# Altium schematic symbol library MCU_Microchip_PIC16.SchLib: 259 symbols (part 4 of 5)
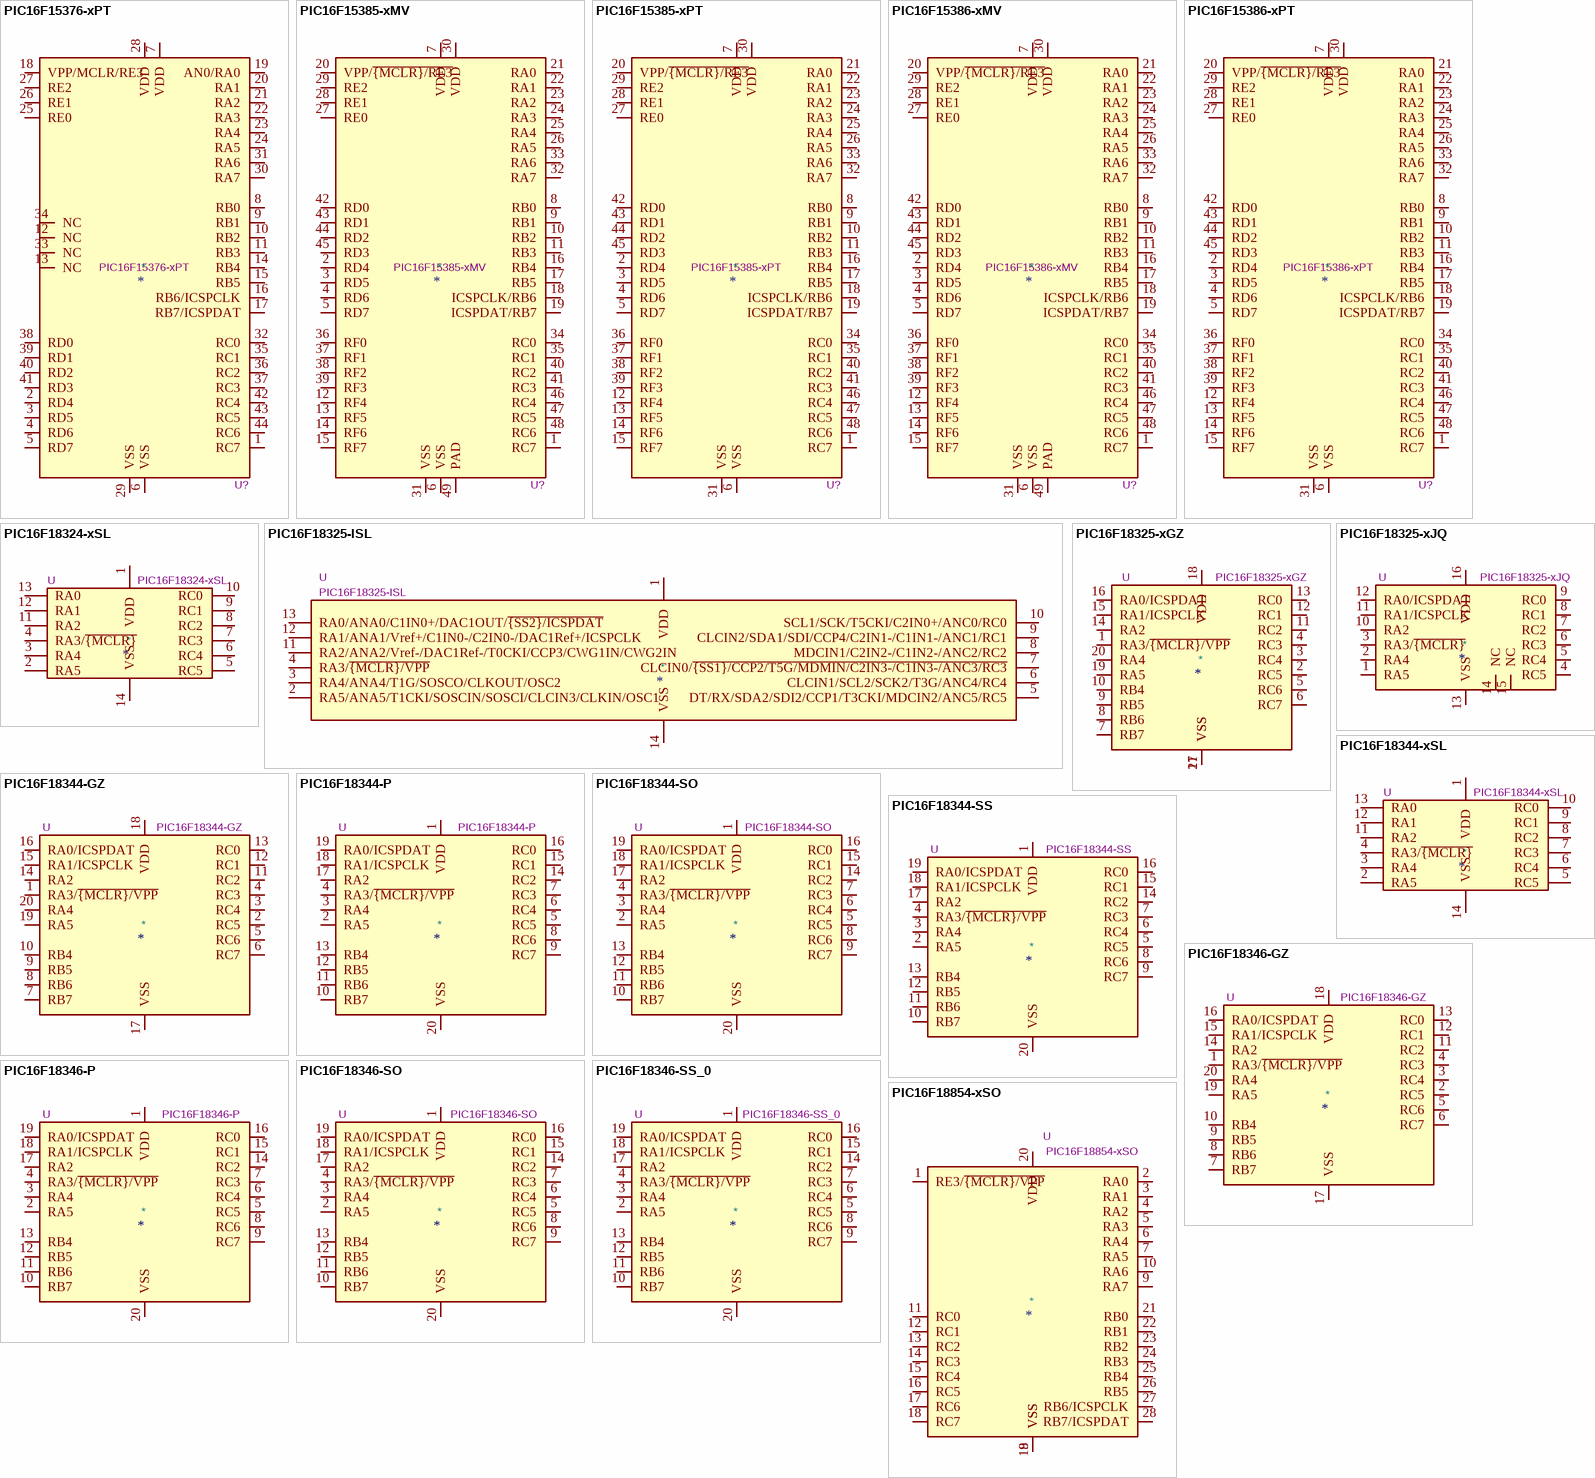
[diagram p22: symbols PIC16F15376-xPT to PIC16F18854-xSO]

## PIC16F18325-xJQ
designator *  value PIC16F18325-xJQ  Reference: U
8192W FLASH, 1024B SRAM, 256B EEPROM, QFN-16; ki_keywords: FLASH-Based 8-Bit CMOS Microcontroller Low Power; ki_fp_filters: UQFN*1EP*4x4mm*P0.65mm*EP2.6x2.6mm*; Footprint: Package_DFN_QFN:UQFN-16-1EP_4x4mm_P0.65mm_EP2.6x2.6mm; Datasheet: http://ww1.microchip.com/downloads/en/DeviceDoc/40001795E.pdf; Description_: 8192W FLASH, 1024B SRAM, 256B EEPROM, QFN-16
pins: 1 RA5, 2 RA4, 3 RA3/~{{MCLR}}, 4 RC5, 5 RC4, 6 RC3, 7 RC2, 8 RC1, 9 RC0, 10 RA2, 11 RA1/ICSPCLK, 12 RA0/ICSPDAT, 13 VSS, 14 NC, 15 NC, 16 VDD

## PIC16F18344-GZ
designator *  value PIC16F18344-GZ  Reference: U
4096W FLASH, 512B RAM, 256B EEPROM, UQFN-20; ki_keywords: FLASH-Based 8-Bit CMOS Microcontroller Low Power; ki_fp_filters: *UQFN*4x4mm*P0.5mm*; Footprint: Package_DFN_QFN:UQFN-20-1EP_4x4mm_P0.5mm_EP2.8x2.8mm; Datasheet: http://ww1.microchip.com/downloads/en/DeviceDoc/40001839B.pdf; Description_: 4096W FLASH, 512B RAM, 256B EEPROM, UQFN-20
pins: 1 RA3/~{{MCLR}/VPP}, 2 RC5, 3 RC4, 4 RC3, 5 RC6, 6 RC7, 7 RB7, 8 RB6, 9 RB5, 10 RB4, 11 RC2, 12 RC1, 13 RC0, 14 RA2, 15 RA1/ICSPCLK, 16 RA0/ICSPDAT, 17 VSS, 18 VDD, 19 RA5, 20 RA4

## PIC16F18344-P
designator *  value PIC16F18344-P  Reference: U
4096W FLASH, 512B RAM, 256B EEPROM, PDIP-20; ki_keywords: FLASH-Based 8-Bit CMOS Microcontroller Low Power; ki_fp_filters: DIP*W7.62mm*; Footprint: Package_DIP:DIP-20_W7.62mm; Datasheet: http://ww1.microchip.com/downloads/en/devicedoc/40001800a.pdf; Description_: 4096W FLASH, 512B RAM, 256B EEPROM, PDIP-20
pins: 1 VDD, 2 RA5, 3 RA4, 4 RA3/~{{MCLR}/VPP}, 5 RC5, 6 RC4, 7 RC3, 8 RC6, 9 RC7, 10 RB7, 11 RB6, 12 RB5, 13 RB4, 14 RC2, 15 RC1, 16 RC0, 17 RA2, 18 RA1/ICSPCLK, 19 RA0/ICSPDAT, 20 VSS

## PIC16F18344-SO
designator *  value PIC16F18344-SO  Reference: U
4096W FLASH, 512B RAM, 256B EEPROM, SOIC-20; ki_keywords: FLASH-Based 8-Bit CMOS Microcontroller Low Power; ki_fp_filters: SOIC*7.5x12.8mm*P1.27mm*; Footprint: Package_SO:SOIC-20W_7.5x12.8mm_P1.27mm; Datasheet: http://ww1.microchip.com/downloads/en/devicedoc/40001800a.pdf; Description_: 4096W FLASH, 512B RAM, 256B EEPROM, SOIC-20
pins: 1 VDD, 2 RA5, 3 RA4, 4 RA3/~{{MCLR}/VPP}, 5 RC5, 6 RC4, 7 RC3, 8 RC6, 9 RC7, 10 RB7, 11 RB6, 12 RB5, 13 RB4, 14 RC2, 15 RC1, 16 RC0, 17 RA2, 18 RA1/ICSPCLK, 19 RA0/ICSPDAT, 20 VSS

## PIC16F18344-SS
designator *  value PIC16F18344-SS  Reference: U
4096W FLASH, 512B RAM, 256B EEPROM, SSOP-20; ki_keywords: FLASH-Based 8-Bit CMOS Microcontroller Low Power; ki_fp_filters: SSOP*5.3x7.2mm*P0.65mm*; Footprint: Package_SO:SSOP-20_5.3x7.2mm_P0.65mm; Datasheet: http://ww1.microchip.com/downloads/en/devicedoc/40001800a.pdf; Description_: 4096W FLASH, 512B RAM, 256B EEPROM, SSOP-20
pins: 1 VDD, 2 RA5, 3 RA4, 4 RA3/~{{MCLR}/VPP}, 5 RC5, 6 RC4, 7 RC3, 8 RC6, 9 RC7, 10 RB7, 11 RB6, 12 RB5, 13 RB4, 14 RC2, 15 RC1, 16 RC0, 17 RA2, 18 RA1/ICSPCLK, 19 RA0/ICSPDAT, 20 VSS

## PIC16F18344-xSL
designator *  value PIC16F18344-xSL  Reference: U
PIC16F18324, 4096W FLASH, 512B SRAM, 256B EEPROM, SOIC14; ki_keywords: FLASH-Based 8-Bit CMOS Microcontroller Low Power; ki_fp_filters: SOIC*3.9x8.7mm*P1.27mm*; Footprint: Package_SO:SOIC-14_3.9x8.7mm_P1.27mm; Datasheet: http://ww1.microchip.com/downloads/en/devicedoc/40001800c.pdf; Description_: PIC16F18324, 4096W FLASH, 512B SRAM, 256B EEPROM, SOIC14
pins: 1 VDD, 2 RA5, 3 RA4, 4 RA3/~{{MCLR}}, 5 RC5, 6 RC4, 7 RC3, 8 RC2, 9 RC1, 10 RC0, 11 RA2, 12 RA1, 13 RA0, 14 VSS

## PIC16F18346-GZ
designator *  value PIC16F18346-GZ  Reference: U
16384W FLASH, 2048B RAM, 256B EEPROM, UQFN-20; ki_keywords: FLASH-Based 8-Bit CMOS Microcontroller Low Power; ki_fp_filters: *UQFN*4x4mm*P0.5mm*; Footprint: Package_DFN_QFN:UQFN-20-1EP_4x4mm_P0.5mm_EP2.8x2.8mm; Datasheet: http://ww1.microchip.com/downloads/en/DeviceDoc/40001839B.pdf; Description_: 16384W FLASH, 2048B RAM, 256B EEPROM, UQFN-20
pins: 1 RA3/~{{MCLR}/VPP}, 2 RC5, 3 RC4, 4 RC3, 5 RC6, 6 RC7, 7 RB7, 8 RB6, 9 RB5, 10 RB4, 11 RC2, 12 RC1, 13 RC0, 14 RA2, 15 RA1/ICSPCLK, 16 RA0/ICSPDAT, 17 VSS, 18 VDD, 19 RA5, 20 RA4

## PIC16F18346-P
designator *  value PIC16F18346-P  Reference: U
16384W FLASH, 2048B RAM, 256B EEPROM, PDIP-20; ki_keywords: FLASH-Based 8-Bit CMOS Microcontroller Low Power; ki_fp_filters: DIP*W7.62mm*; Footprint: Package_DIP:DIP-20_W7.62mm; Datasheet: http://ww1.microchip.com/downloads/en/DeviceDoc/40001839B.pdf; Description_: 16384W FLASH, 2048B RAM, 256B EEPROM, PDIP-20
pins: 1 VDD, 2 RA5, 3 RA4, 4 RA3/~{{MCLR}/VPP}, 5 RC5, 6 RC4, 7 RC3, 8 RC6, 9 RC7, 10 RB7, 11 RB6, 12 RB5, 13 RB4, 14 RC2, 15 RC1, 16 RC0, 17 RA2, 18 RA1/ICSPCLK, 19 RA0/ICSPDAT, 20 VSS

## PIC16F18346-SO
designator *  value PIC16F18346-SO  Reference: U
16384W FLASH, 2048B RAM, 256B EEPROM, SOIC-20; ki_keywords: FLASH-Based 8-Bit CMOS Microcontroller Low Power; ki_fp_filters: SOIC*7.5x12.8mm*P1.27mm*; Footprint: Package_SO:SOIC-20W_7.5x12.8mm_P1.27mm; Datasheet: http://ww1.microchip.com/downloads/en/DeviceDoc/40001839B.pdf; Description_: 16384W FLASH, 2048B RAM, 256B EEPROM, SOIC-20
pins: 1 VDD, 2 RA5, 3 RA4, 4 RA3/~{{MCLR}/VPP}, 5 RC5, 6 RC4, 7 RC3, 8 RC6, 9 RC7, 10 RB7, 11 RB6, 12 RB5, 13 RB4, 14 RC2, 15 RC1, 16 RC0, 17 RA2, 18 RA1/ICSPCLK, 19 RA0/ICSPDAT, 20 VSS

## PIC16F18346-SS_0
designator *  value PIC16F18346-SS_0  Reference: U
16384W FLASH, 2048B RAM, 256B EEPROM, SSOP-20; ki_keywords: FLASH-Based 8-Bit CMOS Microcontroller Low Power; ki_fp_filters: SSOP*5.3x7.2mm*P0.65mm*; Footprint: Package_SO:SSOP-20_5.3x7.2mm_P0.65mm; Datasheet: http://ww1.microchip.com/downloads/en/DeviceDoc/40001839B.pdf; Description_: 16384W FLASH, 2048B RAM, 256B EEPROM, SSOP-20
pins: 1 VDD, 2 RA5, 3 RA4, 4 RA3/~{{MCLR}/VPP}, 5 RC5, 6 RC4, 7 RC3, 8 RC6, 9 RC7, 10 RB7, 11 RB6, 12 RB5, 13 RB4, 14 RC2, 15 RC1, 16 RC0, 17 RA2, 18 RA1/ICSPCLK, 19 RA0/ICSPDAT, 20 VSS

## PIC16F18854-xSO
designator *  value PIC16F18854-xSO  Reference: U
8-bit Flash MCU, 32MHz, 7KB Flash, 512B RAM 256B EEPROM, SOIC-28; ki_keywords: FLASH-Based 8-Bit CMOS Microcontroller Low Power CRC DSM  ADC^2 CLC PLL 32MHz; ki_fp_filters: SOIC*7.5x17.9mm*P1.27mm*; Footprint: Package_SO:SOIC-28W_7.5x17.9mm_P1.27mm; Datasheet: http://ww1.microchip.com/downloads/en/DeviceDoc/PIC16LF18855-75-Data-Sheet-40001802F.pdf; Description_: 8-bit Flash MCU, 32MHz, 7KB Flash, 512B RAM 256B EEPROM, SOIC-28
pins: 1 RE3/~{{MCLR}/VPP}, 2 RA0, 3 RA1, 4 RA2, 5 RA3, 6 RA4, 7 RA5, 8 VSS, 9 RA7, 10 RA6, 11 RC0, 12 RC1, 13 RC2, 14 RC3, 15 RC4, 16 RC5, 17 RC6, 18 RC7, 19 VSS, 20 VDD, 21 RB0, 22 RB1, 23 RB2, 24 RB3, 25 RB4, 26 RB5, 27 RB6/ICSPCLK, 28 RB7/ICSPDAT

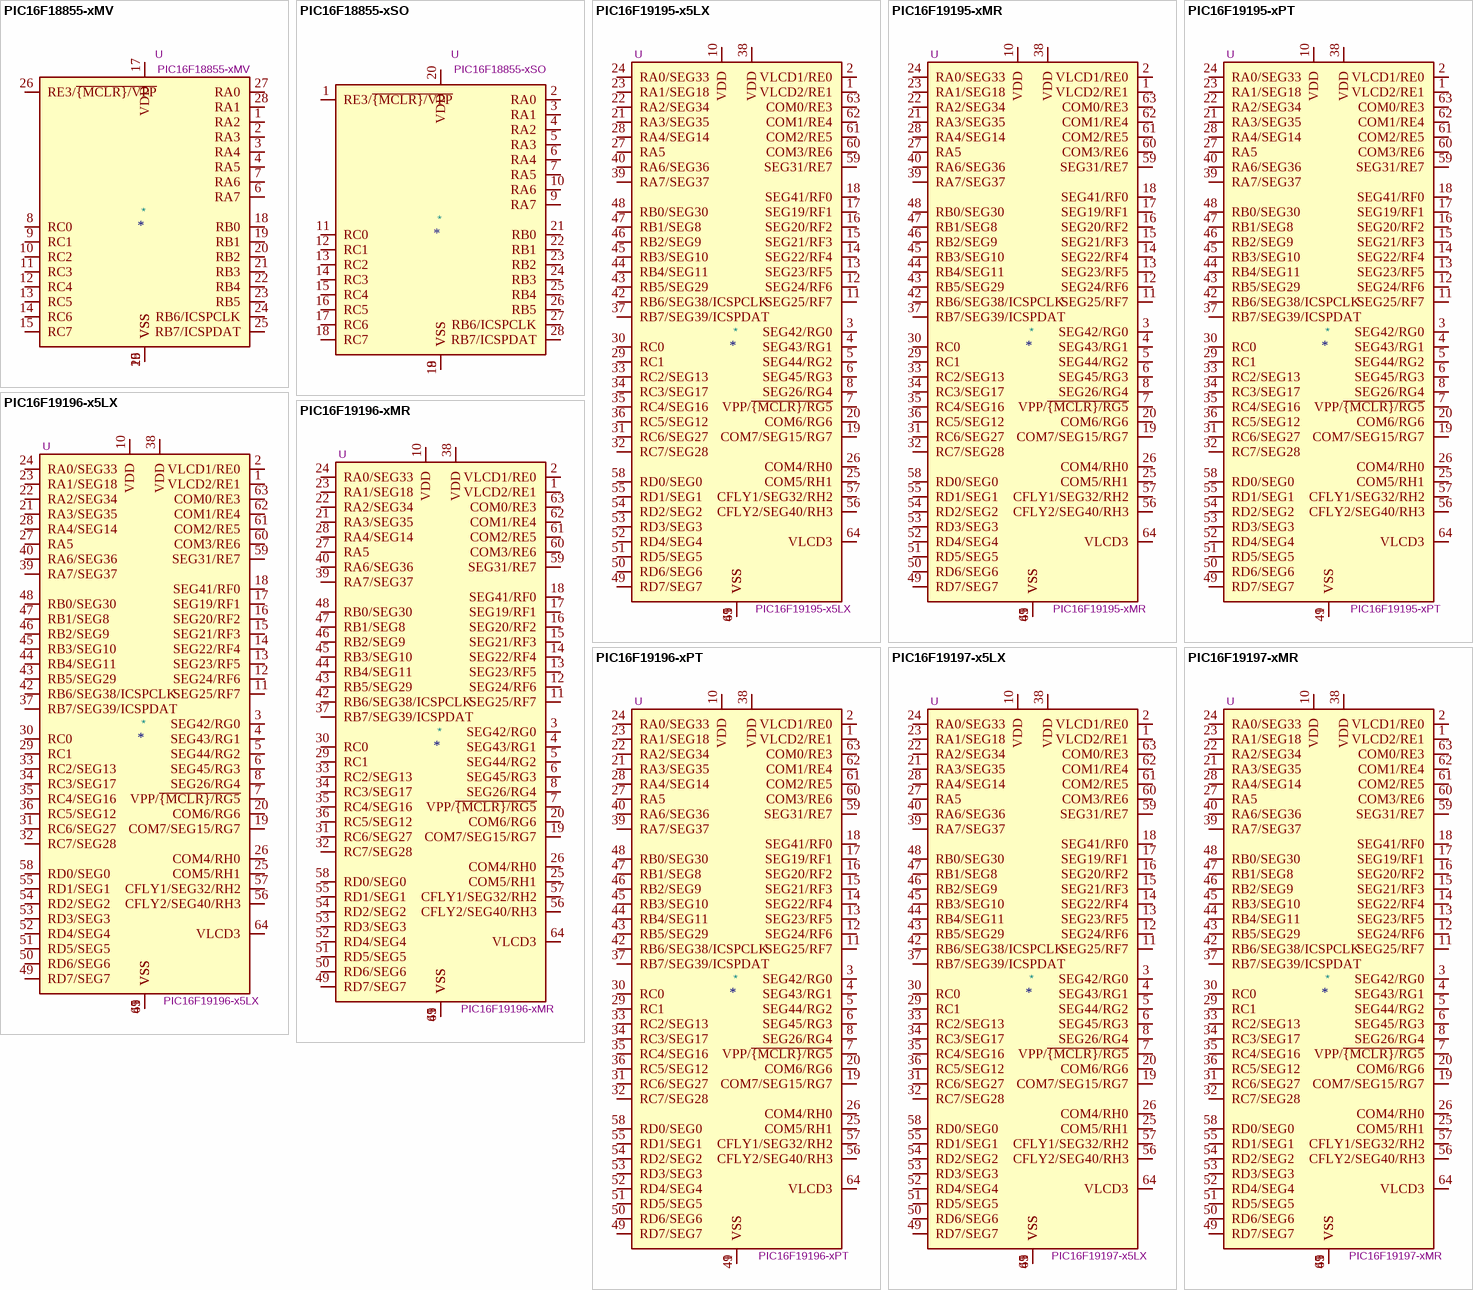
[diagram p16: symbols PIC16F18855-xMV to PIC16F19197-xMR]

## PIC16F18855-xMV
designator *  value PIC16F18855-xMV  Reference: U
8-bit Flash MCU, 32MHz, 14KB Flash, 1KB RAM 256B EEPROM, UQFN-28; ki_keywords: FLASH-Based 8-Bit CMOS Microcontroller Low Power CRC DSM  ADC^2 CLC PLL 32MHz; ki_fp_filters: UQFN*1EP*4x4mm*P0.4mm*; Footprint: Package_DFN_QFN:UQFN-28-1EP_4x4mm_P0.4mm_EP2.35x2.35mm; Datasheet: http://ww1.microchip.com/downloads/en/DeviceDoc/PIC16LF18855-75-Data-Sheet-40001802F.pdf; Description_: 8-bit Flash MCU, 32MHz, 14KB Flash, 1KB RAM 256B EEPROM, UQFN-28
pins: 1 RA2, 2 RA3, 3 RA4, 4 RA5, 5 VSS, 6 RA7, 7 RA6, 8 RC0, 9 RC1, 10 RC2, 11 RC3, 12 RC4, 13 RC5, 14 RC6, 15 RC7, 16 VSS, 17 VDD, 18 RB0, 19 RB1, 20 RB2, 21 RB3, 22 RB4, 23 RB5, 24 RB6/ICSPCLK, 25 RB7/ICSPDAT, 26 RE3/~{{MCLR}/VPP}, 27 RA0, 28 RA1, 29 VSS

## PIC16F18855-xSO
designator *  value PIC16F18855-xSO  Reference: U
8-bit Flash MCU, 32MHz, 14KB Flash, 1024B RAM 256B EEPROM, SOIC-28; ki_keywords: FLASH-Based 8-Bit CMOS Microcontroller Low Power CRC DSM  ADC^2 CLC PLL 32MHz; ki_fp_filters: SOIC*7.5x17.9mm*P1.27mm*; Footprint: Package_SO:SOIC-28W_7.5x17.9mm_P1.27mm; Datasheet: http://ww1.microchip.com/downloads/en/DeviceDoc/40001802G.pdf; Description_: 8-bit Flash MCU, 32MHz, 14KB Flash, 1024B RAM 256B EEPROM, SOIC-28
pins: 1 RE3/~{{MCLR}/VPP}, 2 RA0, 3 RA1, 4 RA2, 5 RA3, 6 RA4, 7 RA5, 8 VSS, 9 RA7, 10 RA6, 11 RC0, 12 RC1, 13 RC2, 14 RC3, 15 RC4, 16 RC5, 17 RC6, 18 RC7, 19 VSS, 20 VDD, 21 RB0, 22 RB1, 23 RB2, 24 RB3, 25 RB4, 26 RB5, 27 RB6/ICSPCLK, 28 RB7/ICSPDAT

## PIC16F19195-x5LX
designator *  value PIC16F19195-x5LX  Reference: U
8kW FLASH, 1kB RAM, 256B EEPROM, VQFN-64; ki_keywords: FLASH-Based 8-Bit CMOS Microcontroller; ki_fp_filters: VQFN*9x9mm*P0.5mm*; Footprint: Package_DFN_QFN:VQFN-64-1EP_9x9mm_P0.5mm_EP5.4x5.4mm; Datasheet: http://ww1.microchip.com/downloads/en/DeviceDoc/PIC16LF19195-6-7-Data-Sheet-40001873D.pdf; Description_: 8kW FLASH, 1kB RAM, 256B EEPROM, VQFN-64
pins: 1 VLCD2/RE1, 2 VLCD1/RE0, 3 SEG42/RG0, 4 SEG43/RG1, 5 SEG44/RG2, 6 SEG45/RG3, 7 VPP/~{{MCLR}/RG5}, 8 SEG26/RG4, 9 VSS, 10 VDD, 11 SEG25/RF7, 12 SEG24/RF6, 13 SEG23/RF5, 14 SEG22/RF4, 15 SEG21/RF3, 16 SEG20/RF2, 17 SEG19/RF1, 18 SEG41/RF0, 19 COM7/SEG15/RG7, 20 COM6/RG6, 21 RA3/SEG35, 22 RA2/SEG34, 23 RA1/SEG18, 24 RA0/SEG33, 25 COM5/RH1, 26 COM4/RH0, 27 RA5, 28 RA4/SEG14, 29 RC1, 30 RC0, 31 RC6/SEG27, 32 RC7/SEG28, 33 RC2/SEG13, 34 RC3/SEG17, 35 RC4/SEG16, 36 RC5/SEG12, 37 RB7/SEG39/ICSPDAT, 38 VDD, 39 RA7/SEG37, 40 RA6/SEG36, 41 VSS, 42 RB6/SEG38/ICSPCLK, 43 RB5/SEG29, 44 RB4/SEG11, 45 RB3/SEG10, 46 RB2/SEG9, 47 RB1/SEG8, 48 RB0/SEG30, 49 RD7/SEG7, 50 RD6/SEG6, 51 RD5/SEG5, 52 RD4/SEG4, 53 RD3/SEG3, 54 RD2/SEG2, 55 RD1/SEG1, 56 CFLY2/SEG40/RH3, 57 CFLY1/SEG32/RH2, 58 RD0/SEG0, 59 SEG31/RE7, 60 COM3/RE6, 61 COM2/RE5, 62 COM1/RE4, 63 COM0/RE3, 64 VLCD3, 65 VSS

## PIC16F19195-xMR
designator *  value PIC16F19195-xMR  Reference: U
8kW FLASH, 1kB RAM, 256B EEPROM, QFN-64; ki_keywords: FLASH-Based 8-Bit CMOS Microcontroller; ki_fp_filters: QFN*9x9mm*P0.5mm*; Footprint: Package_DFN_QFN:QFN-64-1EP_9x9mm_P0.5mm_EP5.4x5.4mm; Datasheet: http://ww1.microchip.com/downloads/en/DeviceDoc/PIC16LF19195-6-7-Data-Sheet-40001873D.pdf; Description_: 8kW FLASH, 1kB RAM, 256B EEPROM, QFN-64
pins: 1 VLCD2/RE1, 2 VLCD1/RE0, 3 SEG42/RG0, 4 SEG43/RG1, 5 SEG44/RG2, 6 SEG45/RG3, 7 VPP/~{{MCLR}/RG5}, 8 SEG26/RG4, 9 VSS, 10 VDD, 11 SEG25/RF7, 12 SEG24/RF6, 13 SEG23/RF5, 14 SEG22/RF4, 15 SEG21/RF3, 16 SEG20/RF2, 17 SEG19/RF1, 18 SEG41/RF0, 19 COM7/SEG15/RG7, 20 COM6/RG6, 21 RA3/SEG35, 22 RA2/SEG34, 23 RA1/SEG18, 24 RA0/SEG33, 25 COM5/RH1, 26 COM4/RH0, 27 RA5, 28 RA4/SEG14, 29 RC1, 30 RC0, 31 RC6/SEG27, 32 RC7/SEG28, 33 RC2/SEG13, 34 RC3/SEG17, 35 RC4/SEG16, 36 RC5/SEG12, 37 RB7/SEG39/ICSPDAT, 38 VDD, 39 RA7/SEG37, 40 RA6/SEG36, 41 VSS, 42 RB6/SEG38/ICSPCLK, 43 RB5/SEG29, 44 RB4/SEG11, 45 RB3/SEG10, 46 RB2/SEG9, 47 RB1/SEG8, 48 RB0/SEG30, 49 RD7/SEG7, 50 RD6/SEG6, 51 RD5/SEG5, 52 RD4/SEG4, 53 RD3/SEG3, 54 RD2/SEG2, 55 RD1/SEG1, 56 CFLY2/SEG40/RH3, 57 CFLY1/SEG32/RH2, 58 RD0/SEG0, 59 SEG31/RE7, 60 COM3/RE6, 61 COM2/RE5, 62 COM1/RE4, 63 COM0/RE3, 64 VLCD3, 65 VSS

## PIC16F19195-xPT
designator *  value PIC16F19195-xPT  Reference: U
8kW FLASH, 1kB RAM, 256B EEPROM, TQFP-64; ki_keywords: FLASH-Based 8-Bit CMOS Microcontroller; ki_fp_filters: TQFP*10x10mm*P0.5mm*; Footprint: Package_QFP:TQFP-64_10x10mm_P0.5mm; Datasheet: http://ww1.microchip.com/downloads/en/DeviceDoc/PIC16LF19195-6-7-Data-Sheet-40001873D.pdf; Description_: 8kW FLASH, 1kB RAM, 256B EEPROM, TQFP-64
pins: 1 VLCD2/RE1, 2 VLCD1/RE0, 3 SEG42/RG0, 4 SEG43/RG1, 5 SEG44/RG2, 6 SEG45/RG3, 7 VPP/~{{MCLR}/RG5}, 8 SEG26/RG4, 9 VSS, 10 VDD, 11 SEG25/RF7, 12 SEG24/RF6, 13 SEG23/RF5, 14 SEG22/RF4, 15 SEG21/RF3, 16 SEG20/RF2, 17 SEG19/RF1, 18 SEG41/RF0, 19 COM7/SEG15/RG7, 20 COM6/RG6, 21 RA3/SEG35, 22 RA2/SEG34, 23 RA1/SEG18, 24 RA0/SEG33, 25 COM5/RH1, 26 COM4/RH0, 27 RA5, 28 RA4/SEG14, 29 RC1, 30 RC0, 31 RC6/SEG27, 32 RC7/SEG28, 33 RC2/SEG13, 34 RC3/SEG17, 35 RC4/SEG16, 36 RC5/SEG12, 37 RB7/SEG39/ICSPDAT, 38 VDD, 39 RA7/SEG37, 40 RA6/SEG36, 41 VSS, 42 RB6/SEG38/ICSPCLK, 43 RB5/SEG29, 44 RB4/SEG11, 45 RB3/SEG10, 46 RB2/SEG9, 47 RB1/SEG8, 48 RB0/SEG30, 49 RD7/SEG7, 50 RD6/SEG6, 51 RD5/SEG5, 52 RD4/SEG4, 53 RD3/SEG3, 54 RD2/SEG2, 55 RD1/SEG1, 56 CFLY2/SEG40/RH3, 57 CFLY1/SEG32/RH2, 58 RD0/SEG0, 59 SEG31/RE7, 60 COM3/RE6, 61 COM2/RE5, 62 COM1/RE4, 63 COM0/RE3, 64 VLCD3

## PIC16F19196-x5LX
designator *  value PIC16F19196-x5LX  Reference: U
16kW FLASH, 2kB RAM, 256B EEPROM, VQFN-64; ki_keywords: FLASH-Based 8-Bit CMOS Microcontroller; ki_fp_filters: VQFN*9x9mm*P0.5mm*; Footprint: Package_DFN_QFN:VQFN-64-1EP_9x9mm_P0.5mm_EP5.4x5.4mm; Datasheet: http://ww1.microchip.com/downloads/en/DeviceDoc/PIC16LF19195-6-7-Data-Sheet-40001873D.pdf; Description_: 16kW FLASH, 2kB RAM, 256B EEPROM, VQFN-64
pins: 1 VLCD2/RE1, 2 VLCD1/RE0, 3 SEG42/RG0, 4 SEG43/RG1, 5 SEG44/RG2, 6 SEG45/RG3, 7 VPP/~{{MCLR}/RG5}, 8 SEG26/RG4, 9 VSS, 10 VDD, 11 SEG25/RF7, 12 SEG24/RF6, 13 SEG23/RF5, 14 SEG22/RF4, 15 SEG21/RF3, 16 SEG20/RF2, 17 SEG19/RF1, 18 SEG41/RF0, 19 COM7/SEG15/RG7, 20 COM6/RG6, 21 RA3/SEG35, 22 RA2/SEG34, 23 RA1/SEG18, 24 RA0/SEG33, 25 COM5/RH1, 26 COM4/RH0, 27 RA5, 28 RA4/SEG14, 29 RC1, 30 RC0, 31 RC6/SEG27, 32 RC7/SEG28, 33 RC2/SEG13, 34 RC3/SEG17, 35 RC4/SEG16, 36 RC5/SEG12, 37 RB7/SEG39/ICSPDAT, 38 VDD, 39 RA7/SEG37, 40 RA6/SEG36, 41 VSS, 42 RB6/SEG38/ICSPCLK, 43 RB5/SEG29, 44 RB4/SEG11, 45 RB3/SEG10, 46 RB2/SEG9, 47 RB1/SEG8, 48 RB0/SEG30, 49 RD7/SEG7, 50 RD6/SEG6, 51 RD5/SEG5, 52 RD4/SEG4, 53 RD3/SEG3, 54 RD2/SEG2, 55 RD1/SEG1, 56 CFLY2/SEG40/RH3, 57 CFLY1/SEG32/RH2, 58 RD0/SEG0, 59 SEG31/RE7, 60 COM3/RE6, 61 COM2/RE5, 62 COM1/RE4, 63 COM0/RE3, 64 VLCD3, 65 VSS

## PIC16F19196-xMR
designator *  value PIC16F19196-xMR  Reference: U
16kW FLASH, 2kB RAM, 256B EEPROM, QFN-64; ki_keywords: FLASH-Based 8-Bit CMOS Microcontroller; ki_fp_filters: QFN*9x9mm*P0.5mm*; Footprint: Package_DFN_QFN:QFN-64-1EP_9x9mm_P0.5mm_EP5.4x5.4mm; Datasheet: http://ww1.microchip.com/downloads/en/DeviceDoc/PIC16LF19195-6-7-Data-Sheet-40001873D.pdf; Description_: 16kW FLASH, 2kB RAM, 256B EEPROM, QFN-64
pins: 1 VLCD2/RE1, 2 VLCD1/RE0, 3 SEG42/RG0, 4 SEG43/RG1, 5 SEG44/RG2, 6 SEG45/RG3, 7 VPP/~{{MCLR}/RG5}, 8 SEG26/RG4, 9 VSS, 10 VDD, 11 SEG25/RF7, 12 SEG24/RF6, 13 SEG23/RF5, 14 SEG22/RF4, 15 SEG21/RF3, 16 SEG20/RF2, 17 SEG19/RF1, 18 SEG41/RF0, 19 COM7/SEG15/RG7, 20 COM6/RG6, 21 RA3/SEG35, 22 RA2/SEG34, 23 RA1/SEG18, 24 RA0/SEG33, 25 COM5/RH1, 26 COM4/RH0, 27 RA5, 28 RA4/SEG14, 29 RC1, 30 RC0, 31 RC6/SEG27, 32 RC7/SEG28, 33 RC2/SEG13, 34 RC3/SEG17, 35 RC4/SEG16, 36 RC5/SEG12, 37 RB7/SEG39/ICSPDAT, 38 VDD, 39 RA7/SEG37, 40 RA6/SEG36, 41 VSS, 42 RB6/SEG38/ICSPCLK, 43 RB5/SEG29, 44 RB4/SEG11, 45 RB3/SEG10, 46 RB2/SEG9, 47 RB1/SEG8, 48 RB0/SEG30, 49 RD7/SEG7, 50 RD6/SEG6, 51 RD5/SEG5, 52 RD4/SEG4, 53 RD3/SEG3, 54 RD2/SEG2, 55 RD1/SEG1, 56 CFLY2/SEG40/RH3, 57 CFLY1/SEG32/RH2, 58 RD0/SEG0, 59 SEG31/RE7, 60 COM3/RE6, 61 COM2/RE5, 62 COM1/RE4, 63 COM0/RE3, 64 VLCD3, 65 VSS

## PIC16F19196-xPT
designator *  value PIC16F19196-xPT  Reference: U
16kW FLASH, 2kB RAM, 256B EEPROM, TQFP-64; ki_keywords: FLASH-Based 8-Bit CMOS Microcontroller; ki_fp_filters: TQFP*10x10mm*P0.5mm*; Footprint: Package_QFP:TQFP-64_10x10mm_P0.5mm; Datasheet: http://ww1.microchip.com/downloads/en/DeviceDoc/PIC16LF19195-6-7-Data-Sheet-40001873D.pdf; Description_: 16kW FLASH, 2kB RAM, 256B EEPROM, TQFP-64
pins: 1 VLCD2/RE1, 2 VLCD1/RE0, 3 SEG42/RG0, 4 SEG43/RG1, 5 SEG44/RG2, 6 SEG45/RG3, 7 VPP/~{{MCLR}/RG5}, 8 SEG26/RG4, 9 VSS, 10 VDD, 11 SEG25/RF7, 12 SEG24/RF6, 13 SEG23/RF5, 14 SEG22/RF4, 15 SEG21/RF3, 16 SEG20/RF2, 17 SEG19/RF1, 18 SEG41/RF0, 19 COM7/SEG15/RG7, 20 COM6/RG6, 21 RA3/SEG35, 22 RA2/SEG34, 23 RA1/SEG18, 24 RA0/SEG33, 25 COM5/RH1, 26 COM4/RH0, 27 RA5, 28 RA4/SEG14, 29 RC1, 30 RC0, 31 RC6/SEG27, 32 RC7/SEG28, 33 RC2/SEG13, 34 RC3/SEG17, 35 RC4/SEG16, 36 RC5/SEG12, 37 RB7/SEG39/ICSPDAT, 38 VDD, 39 RA7/SEG37, 40 RA6/SEG36, 41 VSS, 42 RB6/SEG38/ICSPCLK, 43 RB5/SEG29, 44 RB4/SEG11, 45 RB3/SEG10, 46 RB2/SEG9, 47 RB1/SEG8, 48 RB0/SEG30, 49 RD7/SEG7, 50 RD6/SEG6, 51 RD5/SEG5, 52 RD4/SEG4, 53 RD3/SEG3, 54 RD2/SEG2, 55 RD1/SEG1, 56 CFLY2/SEG40/RH3, 57 CFLY1/SEG32/RH2, 58 RD0/SEG0, 59 SEG31/RE7, 60 COM3/RE6, 61 COM2/RE5, 62 COM1/RE4, 63 COM0/RE3, 64 VLCD3

## PIC16F19197-x5LX
designator *  value PIC16F19197-x5LX  Reference: U
32kW FLASH, 4kB RAM, 256B EEPROM, VQFN-64; ki_keywords: FLASH-Based 8-Bit CMOS Microcontroller; ki_fp_filters: VQFN*9x9mm*P0.5mm*; Footprint: Package_DFN_QFN:VQFN-64-1EP_9x9mm_P0.5mm_EP5.4x5.4mm; Datasheet: http://ww1.microchip.com/downloads/en/DeviceDoc/PIC16LF19195-6-7-Data-Sheet-40001873D.pdf; Description_: 32kW FLASH, 4kB RAM, 256B EEPROM, VQFN-64
pins: 1 VLCD2/RE1, 2 VLCD1/RE0, 3 SEG42/RG0, 4 SEG43/RG1, 5 SEG44/RG2, 6 SEG45/RG3, 7 VPP/~{{MCLR}/RG5}, 8 SEG26/RG4, 9 VSS, 10 VDD, 11 SEG25/RF7, 12 SEG24/RF6, 13 SEG23/RF5, 14 SEG22/RF4, 15 SEG21/RF3, 16 SEG20/RF2, 17 SEG19/RF1, 18 SEG41/RF0, 19 COM7/SEG15/RG7, 20 COM6/RG6, 21 RA3/SEG35, 22 RA2/SEG34, 23 RA1/SEG18, 24 RA0/SEG33, 25 COM5/RH1, 26 COM4/RH0, 27 RA5, 28 RA4/SEG14, 29 RC1, 30 RC0, 31 RC6/SEG27, 32 RC7/SEG28, 33 RC2/SEG13, 34 RC3/SEG17, 35 RC4/SEG16, 36 RC5/SEG12, 37 RB7/SEG39/ICSPDAT, 38 VDD, 39 RA7/SEG37, 40 RA6/SEG36, 41 VSS, 42 RB6/SEG38/ICSPCLK, 43 RB5/SEG29, 44 RB4/SEG11, 45 RB3/SEG10, 46 RB2/SEG9, 47 RB1/SEG8, 48 RB0/SEG30, 49 RD7/SEG7, 50 RD6/SEG6, 51 RD5/SEG5, 52 RD4/SEG4, 53 RD3/SEG3, 54 RD2/SEG2, 55 RD1/SEG1, 56 CFLY2/SEG40/RH3, 57 CFLY1/SEG32/RH2, 58 RD0/SEG0, 59 SEG31/RE7, 60 COM3/RE6, 61 COM2/RE5, 62 COM1/RE4, 63 COM0/RE3, 64 VLCD3, 65 VSS

## PIC16F19197-xMR
designator *  value PIC16F19197-xMR  Reference: U
32kW FLASH, 4kB RAM, 256B EEPROM, QFN-64; ki_keywords: FLASH-Based 8-Bit CMOS Microcontroller; ki_fp_filters: QFN*9x9mm*P0.5mm*; Footprint: Package_DFN_QFN:QFN-64-1EP_9x9mm_P0.5mm_EP5.4x5.4mm; Datasheet: http://ww1.microchip.com/downloads/en/DeviceDoc/PIC16LF19195-6-7-Data-Sheet-40001873D.pdf; Description_: 32kW FLASH, 4kB RAM, 256B EEPROM, QFN-64
pins: 1 VLCD2/RE1, 2 VLCD1/RE0, 3 SEG42/RG0, 4 SEG43/RG1, 5 SEG44/RG2, 6 SEG45/RG3, 7 VPP/~{{MCLR}/RG5}, 8 SEG26/RG4, 9 VSS, 10 VDD, 11 SEG25/RF7, 12 SEG24/RF6, 13 SEG23/RF5, 14 SEG22/RF4, 15 SEG21/RF3, 16 SEG20/RF2, 17 SEG19/RF1, 18 SEG41/RF0, 19 COM7/SEG15/RG7, 20 COM6/RG6, 21 RA3/SEG35, 22 RA2/SEG34, 23 RA1/SEG18, 24 RA0/SEG33, 25 COM5/RH1, 26 COM4/RH0, 27 RA5, 28 RA4/SEG14, 29 RC1, 30 RC0, 31 RC6/SEG27, 32 RC7/SEG28, 33 RC2/SEG13, 34 RC3/SEG17, 35 RC4/SEG16, 36 RC5/SEG12, 37 RB7/SEG39/ICSPDAT, 38 VDD, 39 RA7/SEG37, 40 RA6/SEG36, 41 VSS, 42 RB6/SEG38/ICSPCLK, 43 RB5/SEG29, 44 RB4/SEG11, 45 RB3/SEG10, 46 RB2/SEG9, 47 RB1/SEG8, 48 RB0/SEG30, 49 RD7/SEG7, 50 RD6/SEG6, 51 RD5/SEG5, 52 RD4/SEG4, 53 RD3/SEG3, 54 RD2/SEG2, 55 RD1/SEG1, 56 CFLY2/SEG40/RH3, 57 CFLY1/SEG32/RH2, 58 RD0/SEG0, 59 SEG31/RE7, 60 COM3/RE6, 61 COM2/RE5, 62 COM1/RE4, 63 COM0/RE3, 64 VLCD3, 65 VSS

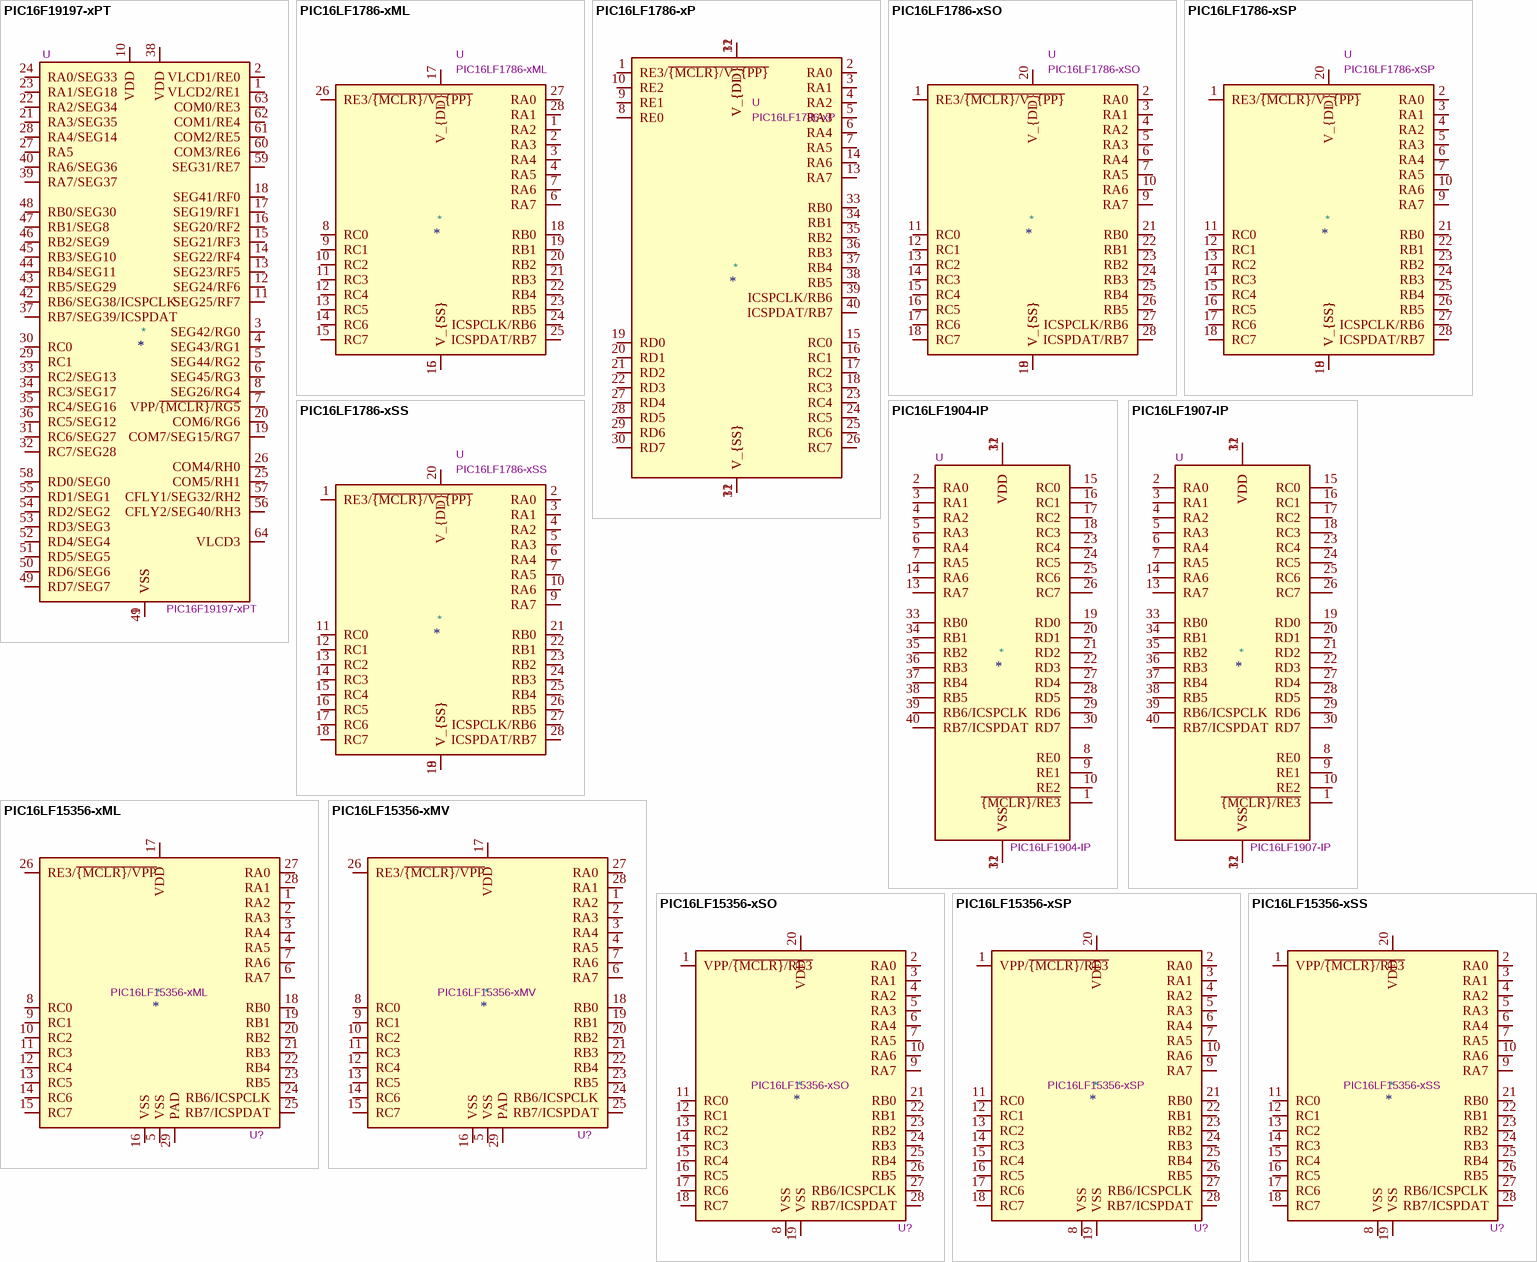
[diagram p17: symbols PIC16F19197-xPT to PIC16LF15356-xSS]

## PIC16F19197-xPT
designator *  value PIC16F19197-xPT  Reference: U
32kW FLASH, 4kB RAM, 256B EEPROM, TQFP-64; ki_keywords: FLASH-Based 8-Bit CMOS Microcontroller; ki_fp_filters: TQFP*10x10mm*P0.5mm*; Footprint: Package_QFP:TQFP-64_10x10mm_P0.5mm; Datasheet: http://ww1.microchip.com/downloads/en/DeviceDoc/PIC16LF19195-6-7-Data-Sheet-40001873D.pdf; Description_: 32kW FLASH, 4kB RAM, 256B EEPROM, TQFP-64
pins: 1 VLCD2/RE1, 2 VLCD1/RE0, 3 SEG42/RG0, 4 SEG43/RG1, 5 SEG44/RG2, 6 SEG45/RG3, 7 VPP/~{{MCLR}/RG5}, 8 SEG26/RG4, 9 VSS, 10 VDD, 11 SEG25/RF7, 12 SEG24/RF6, 13 SEG23/RF5, 14 SEG22/RF4, 15 SEG21/RF3, 16 SEG20/RF2, 17 SEG19/RF1, 18 SEG41/RF0, 19 COM7/SEG15/RG7, 20 COM6/RG6, 21 RA3/SEG35, 22 RA2/SEG34, 23 RA1/SEG18, 24 RA0/SEG33, 25 COM5/RH1, 26 COM4/RH0, 27 RA5, 28 RA4/SEG14, 29 RC1, 30 RC0, 31 RC6/SEG27, 32 RC7/SEG28, 33 RC2/SEG13, 34 RC3/SEG17, 35 RC4/SEG16, 36 RC5/SEG12, 37 RB7/SEG39/ICSPDAT, 38 VDD, 39 RA7/SEG37, 40 RA6/SEG36, 41 VSS, 42 RB6/SEG38/ICSPCLK, 43 RB5/SEG29, 44 RB4/SEG11, 45 RB3/SEG10, 46 RB2/SEG9, 47 RB1/SEG8, 48 RB0/SEG30, 49 RD7/SEG7, 50 RD6/SEG6, 51 RD5/SEG5, 52 RD4/SEG4, 53 RD3/SEG3, 54 RD2/SEG2, 55 RD1/SEG1, 56 CFLY2/SEG40/RH3, 57 CFLY1/SEG32/RH2, 58 RD0/SEG0, 59 SEG31/RE7, 60 COM3/RE6, 61 COM2/RE5, 62 COM1/RE4, 63 COM0/RE3, 64 VLCD3

## PIC16LF1786-xML
designator *  value PIC16LF1786-xML  Reference: U
8-bit Flash MCU, 32MHz, 16KB Flash, 1KB RAM, 256B EEPROM, QFN-28; ki_keywords: FLASH-Based 8-Bit CMOS Microcontroller XLP; ki_fp_filters: QFN*1EP*6x6mm*P0.65mm*; Footprint: Package_DFN_QFN:QFN-28-1EP_6x6mm_P0.65mm_EP4.25x4.25mm; Datasheet: http://ww1.microchip.com/downloads/en/DeviceDoc/40001637C.pdf; Description_: 8-bit Flash MCU, 32MHz, 16KB Flash, 1KB RAM, 256B EEPROM, QFN-28
pins: 1 RA2, 2 RA3, 3 RA4, 4 RA5, 5 V_{SS}, 6 RA7, 7 RA6, 8 RC0, 9 RC1, 10 RC2, 11 RC3, 12 RC4, 13 RC5, 14 RC6, 15 RC7, 16 V_{SS}, 17 V_{DD}, 18 RB0, 19 RB1, 20 RB2, 21 RB3, 22 RB4, 23 RB5, 24 ICSPCLK/RB6, 25 ICSPDAT/RB7, 26 RE3/~{{MCLR}/V_{PP}}, 27 RA0, 28 RA1

## PIC16LF1786-xP
designator *  value PIC16LF1786-xP  Reference: U
8-bit Flash MCU, 32MHz, 16KB Flash, 1KB RAM, 256B EEPROM, PDIP-40; ki_keywords: FLASH-Based 8-Bit CMOS Microcontroller XLP; ki_fp_filters: DIP*W15.24mm*; Footprint: Package_DIP:DIP-40_W15.24mm; Datasheet: http://ww1.microchip.com/downloads/en/DeviceDoc/40001637C.pdf; Description_: 8-bit Flash MCU, 32MHz, 16KB Flash, 1KB RAM, 256B EEPROM, PDIP-40
pins: 1 RE3/~{{MCLR}/V_{PP}}, 2 RA0, 3 RA1, 4 RA2, 5 RA3, 6 RA4, 7 RA5, 8 RE0, 9 RE1, 10 RE2, 11 V_{DD}, 12 V_{SS}, 13 RA7, 14 RA6, 15 RC0, 16 RC1, 17 RC2, 18 RC3, 19 RD0, 20 RD1, 21 RD2, 22 RD3, 23 RC4, 24 RC5, 25 RC6, 26 RC7, 27 RD4, 28 RD5, 29 RD6, 30 RD7, 31 V_{SS}, 32 V_{DD}, 33 RB0, 34 RB1, 35 RB2, 36 RB3, 37 RB4, 38 RB5, 39 ICSPCLK/RB6, 40 ICSPDAT/RB7

## PIC16LF1786-xSO
designator *  value PIC16LF1786-xSO  Reference: U
8-bit Flash MCU, 32MHz, 16KB Flash, 1KB RAM, 256B EEPROM, SOIC-28; ki_keywords: FLASH-Based 8-Bit CMOS Microcontroller XLP; ki_fp_filters: SOIC*7.5x17.9mm*P1.27mm*; Footprint: Package_SO:SOIC-28W_7.5x17.9mm_P1.27mm; Datasheet: http://ww1.microchip.com/downloads/en/DeviceDoc/40001637C.pdf; Description_: 8-bit Flash MCU, 32MHz, 16KB Flash, 1KB RAM, 256B EEPROM, SOIC-28
pins: 1 RE3/~{{MCLR}/V_{PP}}, 2 RA0, 3 RA1, 4 RA2, 5 RA3, 6 RA4, 7 RA5, 8 V_{SS}, 9 RA7, 10 RA6, 11 RC0, 12 RC1, 13 RC2, 14 RC3, 15 RC4, 16 RC5, 17 RC6, 18 RC7, 19 V_{SS}, 20 V_{DD}, 21 RB0, 22 RB1, 23 RB2, 24 RB3, 25 RB4, 26 RB5, 27 ICSPCLK/RB6, 28 ICSPDAT/RB7

## PIC16LF1786-xSP
designator *  value PIC16LF1786-xSP  Reference: U
8-bit Flash MCU, 32MHz, 16KB Flash, 1KB RAM, 256B EEPROM, SPDIP-28; ki_keywords: FLASH-Based 8-Bit CMOS Microcontroller XLP; ki_fp_filters: DIP*W7.62mm*; Footprint: Package_DIP:DIP-28_W7.62mm; Datasheet: http://ww1.microchip.com/downloads/en/DeviceDoc/40001637C.pdf; Description_: 8-bit Flash MCU, 32MHz, 16KB Flash, 1KB RAM, 256B EEPROM, SPDIP-28
pins: 1 RE3/~{{MCLR}/V_{PP}}, 2 RA0, 3 RA1, 4 RA2, 5 RA3, 6 RA4, 7 RA5, 8 V_{SS}, 9 RA7, 10 RA6, 11 RC0, 12 RC1, 13 RC2, 14 RC3, 15 RC4, 16 RC5, 17 RC6, 18 RC7, 19 V_{SS}, 20 V_{DD}, 21 RB0, 22 RB1, 23 RB2, 24 RB3, 25 RB4, 26 RB5, 27 ICSPCLK/RB6, 28 ICSPDAT/RB7

## PIC16LF1786-xSS
designator *  value PIC16LF1786-xSS  Reference: U
8-bit Flash MCU, 32MHz, 16KB Flash, 1KB RAM, 256B EEPROM, SSOP-28; ki_keywords: FLASH-Based 8-Bit CMOS Microcontroller XLP; ki_fp_filters: SSOP*5.3x10.2mm*P0.65mm*; Footprint: Package_SO:SSOP-28_5.3x10.2mm_P0.65mm; Datasheet: http://ww1.microchip.com/downloads/en/DeviceDoc/40001637C.pdf; Description_: 8-bit Flash MCU, 32MHz, 16KB Flash, 1KB RAM, 256B EEPROM, SSOP-28
pins: 1 RE3/~{{MCLR}/V_{PP}}, 2 RA0, 3 RA1, 4 RA2, 5 RA3, 6 RA4, 7 RA5, 8 V_{SS}, 9 RA7, 10 RA6, 11 RC0, 12 RC1, 13 RC2, 14 RC3, 15 RC4, 16 RC5, 17 RC6, 18 RC7, 19 V_{SS}, 20 V_{DD}, 21 RB0, 22 RB1, 23 RB2, 24 RB3, 25 RB4, 26 RB5, 27 ICSPCLK/RB6, 28 ICSPDAT/RB7

## PIC16LF1904-IP
designator *  value PIC16LF1904-IP  Reference: U
4096W FLASH, 256B SRAM, PDIP-40; ki_keywords: FLASH-Based 8-Bit CMOS Microcontroller XLP; ki_fp_filters: DIP*40*; Footprint: Package_DIP:DIP-40_W15.24mm; Datasheet: https://ww1.microchip.com/downloads/aemDocuments/documents/OTH/ProductDocuments/DataSheets/40001569D.pdf; Description_: 4096W FLASH, 256B SRAM, PDIP-40
pins: 1 ~{{MCLR}/RE3}, 2 RA0, 3 RA1, 4 RA2, 5 RA3, 6 RA4, 7 RA5, 8 RE0, 9 RE1, 10 RE2, 11 VDD, 12 VSS, 13 RA7, 14 RA6, 15 RC0, 16 RC1, 17 RC2, 18 RC3, 19 RD0, 20 RD1, 21 RD2, 22 RD3, 23 RC4, 24 RC5, 25 RC6, 26 RC7, 27 RD4, 28 RD5, 29 RD6, 30 RD7, 31 VSS, 32 VDD, 33 RB0, 34 RB1, 35 RB2, 36 RB3, 37 RB4, 38 RB5, 39 RB6/ICSPCLK, 40 RB7/ICSPDAT

## PIC16LF1907-IP
designator *  value PIC16LF1907-IP  Reference: U
8192W FLASH, 512B SRAM, PDIP-40; ki_keywords: FLASH-Based 8-Bit CMOS Microcontroller XLP; ki_fp_filters: DIP*40*; Footprint: Package_DIP:DIP-40_W15.24mm; Datasheet: https://ww1.microchip.com/downloads/aemDocuments/documents/OTH/ProductDocuments/DataSheets/40001569D.pdf; Description_: 8192W FLASH, 512B SRAM, PDIP-40
pins: 1 ~{{MCLR}/RE3}, 2 RA0, 3 RA1, 4 RA2, 5 RA3, 6 RA4, 7 RA5, 8 RE0, 9 RE1, 10 RE2, 11 VDD, 12 VSS, 13 RA7, 14 RA6, 15 RC0, 16 RC1, 17 RC2, 18 RC3, 19 RD0, 20 RD1, 21 RD2, 22 RD3, 23 RC4, 24 RC5, 25 RC6, 26 RC7, 27 RD4, 28 RD5, 29 RD6, 30 RD7, 31 VSS, 32 VDD, 33 RB0, 34 RB1, 35 RB2, 36 RB3, 37 RB4, 38 RB5, 39 RB6/ICSPCLK, 40 RB7/ICSPDAT

## PIC16LF15356-xML
designator *  value PIC16LF15356-xML  Reference: U?
16KW FLASH, 2048B SRAM, QFN-28(6x6mm); ki_keywords: FLASH-Based 8-Bit CMOS Microcontroller Low Power; ki_fp_filters: QFN*6x6mm*; Footprint: Package_DFN_QFN:QFN-28-1EP_6x6mm_P0.65mm_EP4.25x4.25mm; Datasheet: http://ww1.microchip.com/downloads/en/DeviceDoc/PIC16LF15356-75-76-85-86-Data%20Sheet-40001866B.pdf; Description_: 16KW FLASH, 2048B SRAM, QFN-28(6x6mm)
pins: 1 RA2, 2 RA3, 3 RA4, 4 RA5, 5 VSS, 6 RA7, 7 RA6, 8 RC0, 9 RC1, 10 RC2, 11 RC3, 12 RC4, 13 RC5, 14 RC6, 15 RC7, 16 VSS, 17 VDD, 18 RB0, 19 RB1, 20 RB2, 21 RB3, 22 RB4, 23 RB5, 24 RB6/ICSPCLK, 25 RB7/ICSPDAT, 26 RE3/~{{MCLR}/VPP}, 27 RA0, 28 RA1, 29 PAD

## PIC16LF15356-xMV
designator *  value PIC16LF15356-xMV  Reference: U?
16KW FLASH, 2048B SRAM, QFN-28(4x4mm); ki_keywords: FLASH-Based 8-Bit CMOS Microcontroller Low Power; ki_fp_filters: QFN*4x4mm*; Footprint: Package_DFN_QFN:QFN-28-1EP_4x4mm_P0.4mm_EP2.3x2.3mm; Datasheet: http://ww1.microchip.com/downloads/en/DeviceDoc/PIC16LF15356-75-76-85-86-Data%20Sheet-40001866B.pdf; Description_: 16KW FLASH, 2048B SRAM, QFN-28(4x4mm)
pins: 1 RA2, 2 RA3, 3 RA4, 4 RA5, 5 VSS, 6 RA7, 7 RA6, 8 RC0, 9 RC1, 10 RC2, 11 RC3, 12 RC4, 13 RC5, 14 RC6, 15 RC7, 16 VSS, 17 VDD, 18 RB0, 19 RB1, 20 RB2, 21 RB3, 22 RB4, 23 RB5, 24 RB6/ICSPCLK, 25 RB7/ICSPDAT, 26 RE3/~{{MCLR}/VPP}, 27 RA0, 28 RA1, 29 PAD

## PIC16LF15356-xSO
designator *  value PIC16LF15356-xSO  Reference: U?
16KW FLASH, 2048B SRAM, SOIC-28; ki_keywords: FLASH-Based 8-Bit CMOS Microcontroller Low Power; ki_fp_filters: SOIC*.5x17.9mm*; Footprint: Package_SO:SOIC-28W_7.5x17.9mm_P1.27mm; Datasheet: http://ww1.microchip.com/downloads/en/DeviceDoc/PIC16LF15356-75-76-85-86-Data%20Sheet-40001866B.pdf; Description_: 16KW FLASH, 2048B SRAM, SOIC-28
pins: 1 VPP/~{{MCLR}/RE3}, 2 RA0, 3 RA1, 4 RA2, 5 RA3, 6 RA4, 7 RA5, 8 VSS, 9 RA7, 10 RA6, 11 RC0, 12 RC1, 13 RC2, 14 RC3, 15 RC4, 16 RC5, 17 RC6, 18 RC7, 19 VSS, 20 VDD, 21 RB0, 22 RB1, 23 RB2, 24 RB3, 25 RB4, 26 RB5, 27 RB6/ICSPCLK, 28 RB7/ICSPDAT

## PIC16LF15356-xSP
designator *  value PIC16LF15356-xSP  Reference: U?
16KW FLASH, 2048B SRAM, DIP-28; ki_keywords: FLASH-Based 8-Bit CMOS Microcontroller Low Power; ki_fp_filters: DIP*7.62mm*; Footprint: Package_DIP:DIP-28_W7.62mm; Datasheet: http://ww1.microchip.com/downloads/en/DeviceDoc/PIC16LF15356-75-76-85-86-Data%20Sheet-40001866B.pdf; Description_: 16KW FLASH, 2048B SRAM, DIP-28
pins: 1 VPP/~{{MCLR}/RE3}, 2 RA0, 3 RA1, 4 RA2, 5 RA3, 6 RA4, 7 RA5, 8 VSS, 9 RA7, 10 RA6, 11 RC0, 12 RC1, 13 RC2, 14 RC3, 15 RC4, 16 RC5, 17 RC6, 18 RC7, 19 VSS, 20 VDD, 21 RB0, 22 RB1, 23 RB2, 24 RB3, 25 RB4, 26 RB5, 27 RB6/ICSPCLK, 28 RB7/ICSPDAT

## PIC16LF15356-xSS
designator *  value PIC16LF15356-xSS  Reference: U?
16KW FLASH, 2048B SRAM, SSOP-28; ki_keywords: FLASH-Based 8-Bit CMOS Microcontroller Low Power; ki_fp_filters: SSOP*5.3x10.2mm*; Footprint: Package_SO:SSOP-28_5.3x10.2mm_P0.65mm; Datasheet: http://ww1.microchip.com/downloads/en/DeviceDoc/PIC16LF15356-75-76-85-86-Data%20Sheet-40001866B.pdf; Description_: 16KW FLASH, 2048B SRAM, SSOP-28
pins: 1 VPP/~{{MCLR}/RE3}, 2 RA0, 3 RA1, 4 RA2, 5 RA3, 6 RA4, 7 RA5, 8 VSS, 9 RA7, 10 RA6, 11 RC0, 12 RC1, 13 RC2, 14 RC3, 15 RC4, 16 RC5, 17 RC6, 18 RC7, 19 VSS, 20 VDD, 21 RB0, 22 RB1, 23 RB2, 24 RB3, 25 RB4, 26 RB5, 27 RB6/ICSPCLK, 28 RB7/ICSPDAT

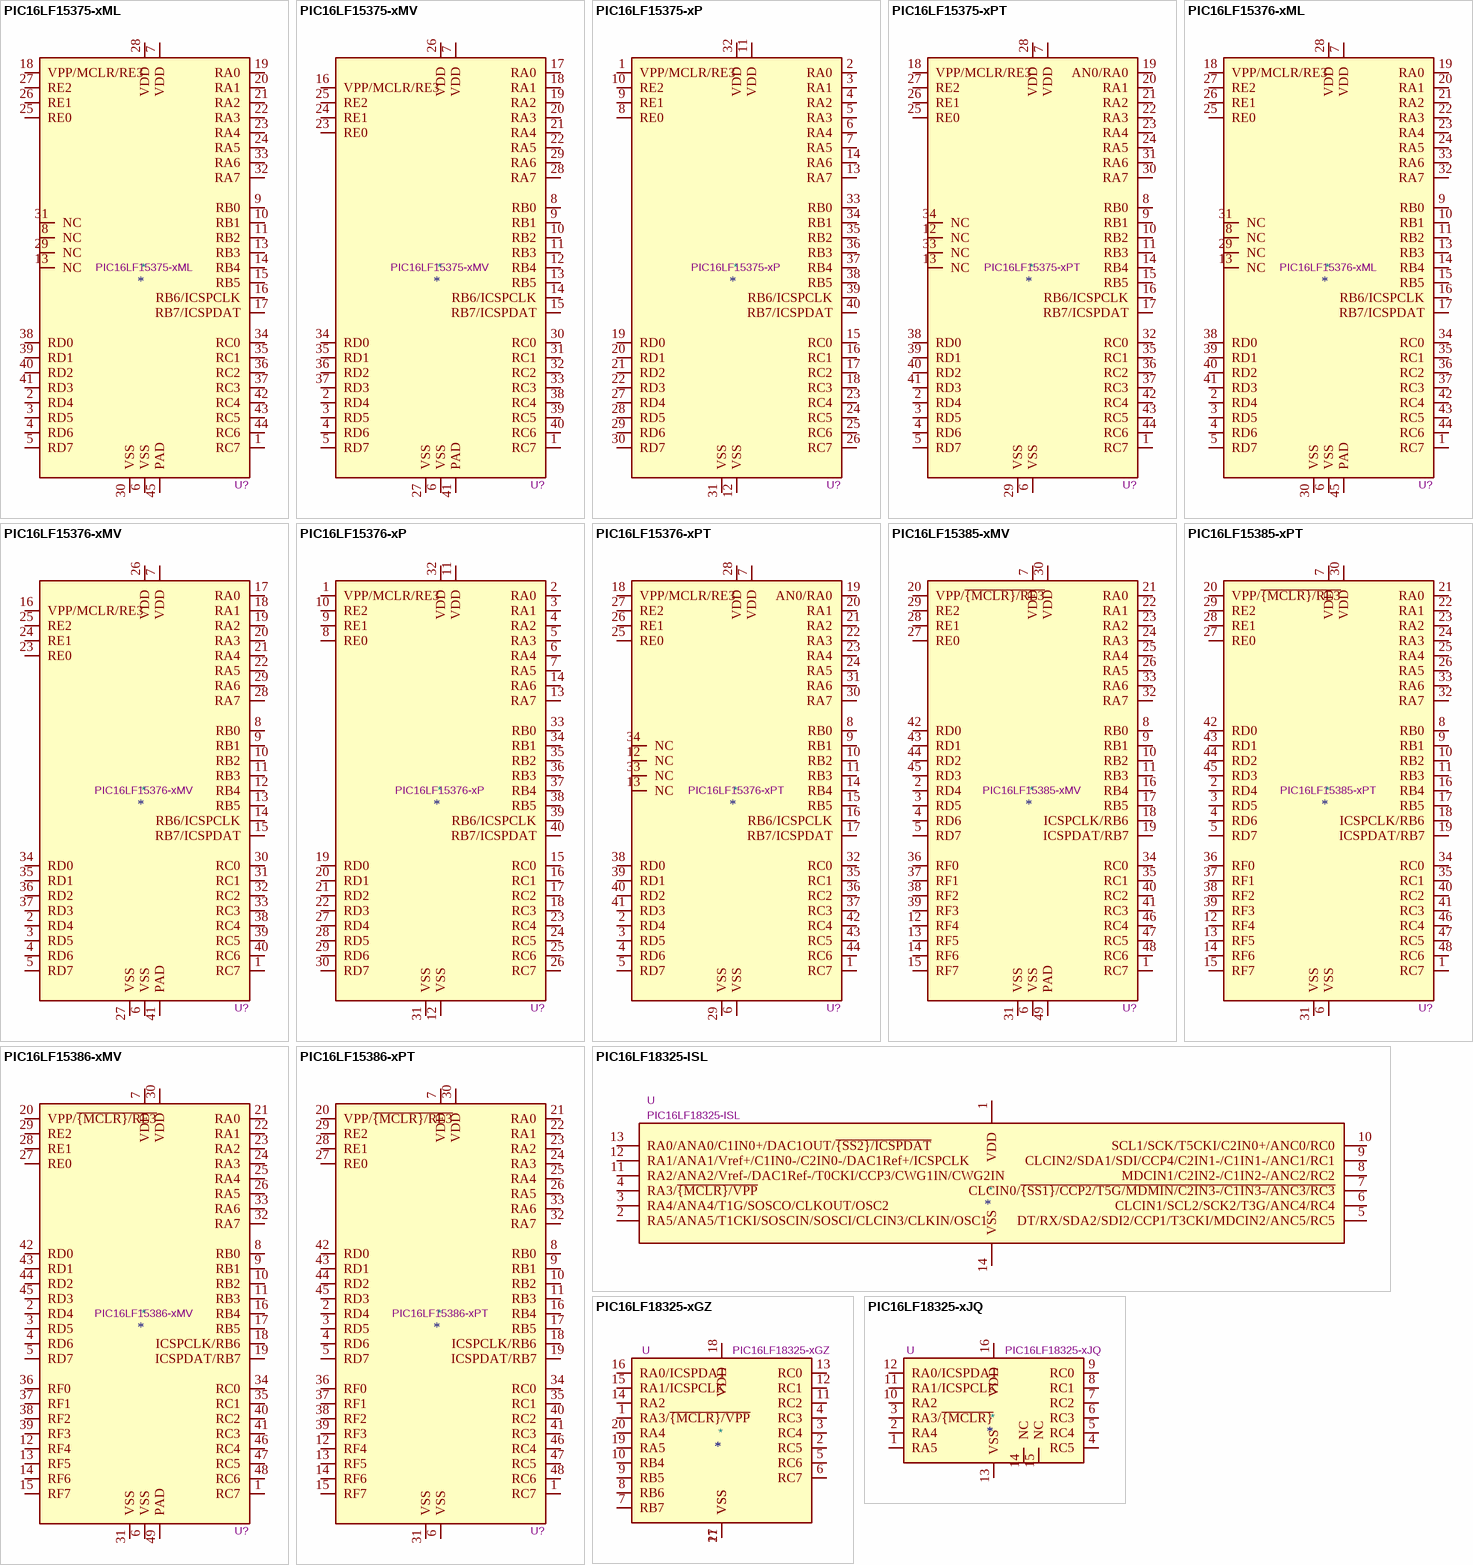
[diagram p18: symbols PIC16LF15375-xML to PIC16LF18325-xJQ]

## PIC16LF15375-xML
designator *  value PIC16LF15375-xML  Reference: U?
8KW FLASH, 1024B SRAM, QFN-44(8x8mm); ki_keywords: FLASH-Based 8-Bit CMOS Microcontroller Low Power; ki_fp_filters: QFN*8x8mm*; Footprint: Package_DFN_QFN:QFN-44-1EP_8x8mm_P0.65mm_EP6.45x6.45mm; Datasheet: http://ww1.microchip.com/downloads/en/DeviceDoc/PIC16LF15356-75-76-85-86-Data%20Sheet-40001866B.pdf; Description_: 8KW FLASH, 1024B SRAM, QFN-44(8x8mm)
pins: 1 RC7, 2 RD4, 3 RD5, 4 RD6, 5 RD7, 6 VSS, 7 VDD, 8 NC, 9 RB0, 10 RB1, 11 RB2, 13 RB3, 13 NC, 14 RB4, 15 RB5, 16 RB6/ICSPCLK, 17 RB7/ICSPDAT, 18 VPP/MCLR/RE3, 19 RA0, 20 RA1, 21 RA2, 22 RA3, 23 RA4, 24 RA5, 25 RE0, 26 RE1, 27 RE2, 28 VDD, 29 NC, 30 VSS, 31 NC, 32 RA7, 33 RA6, 34 RC0, 35 RC1, 36 RC2, 37 RC3, 38 RD0, 39 RD1, 40 RD2, 41 RD3, 42 RC4, 43 RC5, 44 RC6, 45 PAD

## PIC16LF15375-xMV
designator *  value PIC16LF15375-xMV  Reference: U?
8KW FLASH, 1024B SRAM, QFN-40(5x5mm); ki_keywords: FLASH-Based 8-Bit CMOS Microcontroller Low Power; ki_fp_filters: QFN*1EP*5x5mm*; Footprint: Package_DFN_QFN:QFN-40-1EP_5x5mm_P0.4mm_EP3.8x3.8mm; Datasheet: http://ww1.microchip.com/downloads/en/DeviceDoc/PIC16LF15356-75-76-85-86-Data%20Sheet-40001866B.pdf; Description_: 8KW FLASH, 1024B SRAM, QFN-40(5x5mm)
pins: 1 RC7, 2 RD4, 3 RD5, 4 RD6, 5 RD7, 6 VSS, 7 VDD, 8 RB0, 9 RB1, 10 RB2, 11 RB3, 12 RB4, 13 RB5, 14 RB6/ICSPCLK, 15 RB7/ICSPDAT, 16 VPP/MCLR/RE3, 17 RA0, 18 RA1, 19 RA2, 20 RA3, 21 RA4, 22 RA5, 23 RE0, 24 RE1, 25 RE2, 26 VDD, 27 VSS, 28 RA7, 29 RA6, 30 RC0, 31 RC1, 32 RC2, 33 RC3, 34 RD0, 35 RD1, 36 RD2, 37 RD3, 38 RC4, 39 RC5, 40 RC6, 41 PAD

## PIC16LF15375-xP
designator *  value PIC16LF15375-xP  Reference: U?
8KW FLASH, 1024B SRAM, DIP-40; ki_keywords: FLASH-Based 8-Bit CMOS Microcontroller Low Power; ki_fp_filters: DIP*15.24mm*; Footprint: Package_DIP:DIP-40_W15.24mm; Datasheet: http://ww1.microchip.com/downloads/en/DeviceDoc/PIC16LF15356-75-76-85-86-Data%20Sheet-40001866B.pdf; Description_: 8KW FLASH, 1024B SRAM, DIP-40
pins: 1 VPP/MCLR/RE3, 2 RA0, 3 RA1, 4 RA2, 5 RA3, 6 RA4, 7 RA5, 8 RE0, 9 RE1, 10 RE2, 11 VDD, 12 VSS, 13 RA7, 14 RA6, 15 RC0, 16 RC1, 17 RC2, 18 RC3, 19 RD0, 20 RD1, 21 RD2, 22 RD3, 23 RC4, 24 RC5, 25 RC6, 26 RC7, 27 RD4, 28 RD5, 29 RD6, 30 RD7, 31 VSS, 32 VDD, 33 RB0, 34 RB1, 35 RB2, 36 RB3, 37 RB4, 38 RB5, 39 RB6/ICSPCLK, 40 RB7/ICSPDAT

## PIC16LF15375-xPT
designator *  value PIC16LF15375-xPT  Reference: U?
8KW FLASH, 1024B SRAM, TQFP-44(10x10mm); ki_keywords: FLASH-Based 8-Bit CMOS Microcontroller Low Power; ki_fp_filters: TQFP*10x10mm*; Footprint: Package_QFP:TQFP-44_10x10mm_P0.8mm; Datasheet: http://ww1.microchip.com/downloads/en/DeviceDoc/PIC16LF15356-75-76-85-86-Data%20Sheet-40001866B.pdf; Description_: 8KW FLASH, 1024B SRAM, TQFP-44(10x10mm)
pins: 1 RC7, 2 RD4, 3 RD5, 4 RD6, 5 RD7, 6 VSS, 7 VDD, 8 RB0, 9 RB1, 10 RB2, 11 RB3, 12 NC, 13 NC, 14 RB4, 15 RB5, 16 RB6/ICSPCLK, 17 RB7/ICSPDAT, 18 VPP/MCLR/RE3, 19 AN0/RA0, 20 RA1, 21 RA2, 22 RA3, 23 RA4, 24 RA5, 25 RE0, 26 RE1, 27 RE2, 28 VDD, 29 VSS, 30 RA7, 31 RA6, 32 RC0, 33 NC, 34 NC, 35 RC1, 36 RC2, 37 RC3, 38 RD0, 39 RD1, 40 RD2, 41 RD3, 42 RC4, 43 RC5, 44 RC6

## PIC16LF15376-xML
designator *  value PIC16LF15376-xML  Reference: U?
16KW FLASH, 2048B SRAM, QFN-44(8x8mm); ki_keywords: FLASH-Based 8-Bit CMOS Microcontroller Low Power; ki_fp_filters: QFN*8x8mm*; Footprint: Package_DFN_QFN:QFN-44-1EP_8x8mm_P0.65mm_EP6.45x6.45mm; Datasheet: http://ww1.microchip.com/downloads/en/DeviceDoc/PIC16LF15356-75-76-85-86-Data%20Sheet-40001866B.pdf; Description_: 16KW FLASH, 2048B SRAM, QFN-44(8x8mm)
pins: 1 RC7, 2 RD4, 3 RD5, 4 RD6, 5 RD7, 6 VSS, 7 VDD, 8 NC, 9 RB0, 10 RB1, 11 RB2, 13 RB3, 13 NC, 14 RB4, 15 RB5, 16 RB6/ICSPCLK, 17 RB7/ICSPDAT, 18 VPP/MCLR/RE3, 19 RA0, 20 RA1, 21 RA2, 22 RA3, 23 RA4, 24 RA5, 25 RE0, 26 RE1, 27 RE2, 28 VDD, 29 NC, 30 VSS, 31 NC, 32 RA7, 33 RA6, 34 RC0, 35 RC1, 36 RC2, 37 RC3, 38 RD0, 39 RD1, 40 RD2, 41 RD3, 42 RC4, 43 RC5, 44 RC6, 45 PAD

## PIC16LF15376-xMV
designator *  value PIC16LF15376-xMV  Reference: U?
16KW FLASH, 2048B SRAM, QFN-40(5x5mm); ki_keywords: FLASH-Based 8-Bit CMOS Microcontroller Low Power; ki_fp_filters: QFN*1EP*5x5mm*; Footprint: Package_DFN_QFN:QFN-40-1EP_5x5mm_P0.4mm_EP3.8x3.8mm; Datasheet: http://ww1.microchip.com/downloads/en/DeviceDoc/PIC16LF15356-75-76-85-86-Data%20Sheet-40001866B.pdf; Description_: 16KW FLASH, 2048B SRAM, QFN-40(5x5mm)
pins: 1 RC7, 2 RD4, 3 RD5, 4 RD6, 5 RD7, 6 VSS, 7 VDD, 8 RB0, 9 RB1, 10 RB2, 11 RB3, 12 RB4, 13 RB5, 14 RB6/ICSPCLK, 15 RB7/ICSPDAT, 16 VPP/MCLR/RE3, 17 RA0, 18 RA1, 19 RA2, 20 RA3, 21 RA4, 22 RA5, 23 RE0, 24 RE1, 25 RE2, 26 VDD, 27 VSS, 28 RA7, 29 RA6, 30 RC0, 31 RC1, 32 RC2, 33 RC3, 34 RD0, 35 RD1, 36 RD2, 37 RD3, 38 RC4, 39 RC5, 40 RC6, 41 PAD

## PIC16LF15376-xP
designator *  value PIC16LF15376-xP  Reference: U?
16KW FLASH, 2048B SRAM, DIP-40; ki_keywords: FLASH-Based 8-Bit CMOS Microcontroller Low Power; ki_fp_filters: DIP*15.24mm*; Footprint: Package_DIP:DIP-40_W15.24mm; Datasheet: http://ww1.microchip.com/downloads/en/DeviceDoc/PIC16LF15356-75-76-85-86-Data%20Sheet-40001866B.pdf; Description_: 16KW FLASH, 2048B SRAM, DIP-40
pins: 1 VPP/MCLR/RE3, 2 RA0, 3 RA1, 4 RA2, 5 RA3, 6 RA4, 7 RA5, 8 RE0, 9 RE1, 10 RE2, 11 VDD, 12 VSS, 13 RA7, 14 RA6, 15 RC0, 16 RC1, 17 RC2, 18 RC3, 19 RD0, 20 RD1, 21 RD2, 22 RD3, 23 RC4, 24 RC5, 25 RC6, 26 RC7, 27 RD4, 28 RD5, 29 RD6, 30 RD7, 31 VSS, 32 VDD, 33 RB0, 34 RB1, 35 RB2, 36 RB3, 37 RB4, 38 RB5, 39 RB6/ICSPCLK, 40 RB7/ICSPDAT

## PIC16LF15376-xPT
designator *  value PIC16LF15376-xPT  Reference: U?
16KW FLASH, 2048B SRAM, TQFP-44(10x10mm); ki_keywords: FLASH-Based 8-Bit CMOS Microcontroller Low Power; ki_fp_filters: TQFP*10x10mm*; Footprint: Package_QFP:TQFP-44_10x10mm_P0.8mm; Datasheet: http://ww1.microchip.com/downloads/en/DeviceDoc/PIC16LF15356-75-76-85-86-Data%20Sheet-40001866B.pdf; Description_: 16KW FLASH, 2048B SRAM, TQFP-44(10x10mm)
pins: 1 RC7, 2 RD4, 3 RD5, 4 RD6, 5 RD7, 6 VSS, 7 VDD, 8 RB0, 9 RB1, 10 RB2, 11 RB3, 12 NC, 13 NC, 14 RB4, 15 RB5, 16 RB6/ICSPCLK, 17 RB7/ICSPDAT, 18 VPP/MCLR/RE3, 19 AN0/RA0, 20 RA1, 21 RA2, 22 RA3, 23 RA4, 24 RA5, 25 RE0, 26 RE1, 27 RE2, 28 VDD, 29 VSS, 30 RA7, 31 RA6, 32 RC0, 33 NC, 34 NC, 35 RC1, 36 RC2, 37 RC3, 38 RD0, 39 RD1, 40 RD2, 41 RD3, 42 RC4, 43 RC5, 44 RC6

## PIC16LF15385-xMV
designator *  value PIC16LF15385-xMV  Reference: U?
8KW FLASH, 1024B SRAM, QFN-48(6x6mm); ki_keywords: FLASH-Based 8-Bit CMOS Microcontroller Low Power; ki_fp_filters: QFN*6x6mm*; Footprint: Package_DFN_QFN:QFN-48-1EP_6x6mm_P0.4mm_EP4.6x4.6mm; Datasheet: http://ww1.microchip.com/downloads/en/DeviceDoc/PIC16LF15356-75-76-85-86-Data%20Sheet-40001866B.pdf; Description_: 8KW FLASH, 1024B SRAM, QFN-48(6x6mm)
pins: 1 RC7, 2 RD4, 3 RD5, 4 RD6, 5 RD7, 6 VSS, 7 VDD, 8 RB0, 9 RB1, 10 RB2, 11 RB3, 12 RF4, 13 RF5, 14 RF6, 15 RF7, 16 RB4, 17 RB5, 18 ICSPCLK/RB6, 19 ICSPDAT/RB7, 20 VPP/~{{MCLR}/RE3}, 21 RA0, 22 RA1, 23 RA2, 24 RA3, 25 RA4, 26 RA5, 27 RE0, 28 RE1, 29 RE2, 30 VDD, 31 VSS, 32 RA7, 33 RA6, 34 RC0, 35 RC1, 36 RF0, 37 RF1, 38 RF2, 39 RF3, 40 RC2, 41 RC3, 42 RD0, 43 RD1, 44 RD2, 45 RD3, 46 RC4, 47 RC5, 48 RC6, 49 PAD

## PIC16LF15385-xPT
designator *  value PIC16LF15385-xPT  Reference: U?
8KW FLASH, 1024B SRAM, TQFP-48(7x7mm); ki_keywords: FLASH-Based 8-Bit CMOS Microcontroller Low Power; ki_fp_filters: TQFP*7x7mm*; Footprint: Package_QFP:TQFP-48_7x7mm_P0.5mm; Datasheet: http://ww1.microchip.com/downloads/en/DeviceDoc/PIC16LF15356-75-76-85-86-Data%20Sheet-40001866B.pdf; Description_: 8KW FLASH, 1024B SRAM, TQFP-48(7x7mm)
pins: 1 RC7, 2 RD4, 3 RD5, 4 RD6, 5 RD7, 6 VSS, 7 VDD, 8 RB0, 9 RB1, 10 RB2, 11 RB3, 12 RF4, 13 RF5, 14 RF6, 15 RF7, 16 RB4, 17 RB5, 18 ICSPCLK/RB6, 19 ICSPDAT/RB7, 20 VPP/~{{MCLR}/RE3}, 21 RA0, 22 RA1, 23 RA2, 24 RA3, 25 RA4, 26 RA5, 27 RE0, 28 RE1, 29 RE2, 30 VDD, 31 VSS, 32 RA7, 33 RA6, 34 RC0, 35 RC1, 36 RF0, 37 RF1, 38 RF2, 39 RF3, 40 RC2, 41 RC3, 42 RD0, 43 RD1, 44 RD2, 45 RD3, 46 RC4, 47 RC5, 48 RC6

## PIC16LF15386-xMV
designator *  value PIC16LF15386-xMV  Reference: U?
16KW FLASH, 2048B SRAM, QFN-48(6x6mm); ki_keywords: FLASH-Based 8-Bit CMOS Microcontroller Low Power; ki_fp_filters: QFN*6x6mm*; Footprint: Package_DFN_QFN:QFN-48-1EP_6x6mm_P0.4mm_EP4.6x4.6mm; Datasheet: http://ww1.microchip.com/downloads/en/DeviceDoc/PIC16LF15356-75-76-85-86-Data%20Sheet-40001866B.pdf; Description_: 16KW FLASH, 2048B SRAM, QFN-48(6x6mm)
pins: 1 RC7, 2 RD4, 3 RD5, 4 RD6, 5 RD7, 6 VSS, 7 VDD, 8 RB0, 9 RB1, 10 RB2, 11 RB3, 12 RF4, 13 RF5, 14 RF6, 15 RF7, 16 RB4, 17 RB5, 18 ICSPCLK/RB6, 19 ICSPDAT/RB7, 20 VPP/~{{MCLR}/RE3}, 21 RA0, 22 RA1, 23 RA2, 24 RA3, 25 RA4, 26 RA5, 27 RE0, 28 RE1, 29 RE2, 30 VDD, 31 VSS, 32 RA7, 33 RA6, 34 RC0, 35 RC1, 36 RF0, 37 RF1, 38 RF2, 39 RF3, 40 RC2, 41 RC3, 42 RD0, 43 RD1, 44 RD2, 45 RD3, 46 RC4, 47 RC5, 48 RC6, 49 PAD

## PIC16LF15386-xPT
designator *  value PIC16LF15386-xPT  Reference: U?
16KW FLASH, 2048B SRAM, TQFP-48(7x7mm); ki_keywords: FLASH-Based 8-Bit CMOS Microcontroller Low Power; ki_fp_filters: TQFP*7x7mm*; Footprint: Package_QFP:TQFP-48_7x7mm_P0.5mm; Datasheet: http://ww1.microchip.com/downloads/en/DeviceDoc/PIC16LF15356-75-76-85-86-Data%20Sheet-40001866B.pdf; Description_: 16KW FLASH, 2048B SRAM, TQFP-48(7x7mm)
pins: 1 RC7, 2 RD4, 3 RD5, 4 RD6, 5 RD7, 6 VSS, 7 VDD, 8 RB0, 9 RB1, 10 RB2, 11 RB3, 12 RF4, 13 RF5, 14 RF6, 15 RF7, 16 RB4, 17 RB5, 18 ICSPCLK/RB6, 19 ICSPDAT/RB7, 20 VPP/~{{MCLR}/RE3}, 21 RA0, 22 RA1, 23 RA2, 24 RA3, 25 RA4, 26 RA5, 27 RE0, 28 RE1, 29 RE2, 30 VDD, 31 VSS, 32 RA7, 33 RA6, 34 RC0, 35 RC1, 36 RF0, 37 RF1, 38 RF2, 39 RF3, 40 RC2, 41 RC3, 42 RD0, 43 RD1, 44 RD2, 45 RD3, 46 RC4, 47 RC5, 48 RC6

## PIC16LF18325-ISL
designator *  value PIC16LF18325-ISL  Reference: U
PIC16LF18325, 8192W FLASH, 1024B SRAM, SOIC14; ki_keywords: FLASH-Based 8-Bit CMOS Microcontroller Low Power; ki_fp_filters: SOIC*3.9x8.7mm*P1.27mm*; Footprint: Package_SO:SOIC-14_3.9x8.7mm_P1.27mm; Datasheet: http://ww1.microchip.com/downloads/en/devicedoc/40001795b.pdf; Description_: PIC16LF18325, 8192W FLASH, 1024B SRAM, SOIC14
pins: 1 VDD, 2 RA5/ANA5/T1CKI/SOSCIN/SOSCI/CLCIN3/CLKIN/OSC1, 3 RA4/ANA4/T1G/SOSCO/CLKOUT/OSC2, 4 RA3/~{{MCLR}/VPP}, 5 DT/RX/SDA2/SDI2/CCP1/T3CKI/MDCIN2/ANC5/RC5, 6 CLCIN1/SCL2/SCK2/T3G/ANC4/RC4, 7 CLCIN0/~{{SS1}/CCP2/T5G/MDMIN/C2IN3-/C1IN3-/ANC3/RC3}, 8 MDCIN1/C2IN2-/C1IN2-/ANC2/RC2, 9 CLCIN2/SDA1/SDI/CCP4/C2IN1-/C1IN1-/ANC1/RC1, 10 SCL1/SCK/T5CKI/C2IN0+/ANC0/RC0, 11 RA2/ANA2/Vref-/DAC1Ref-/T0CKI/CCP3/CWG1IN/CWG2IN, 12 RA1/ANA1/Vref+/C1IN0-/C2IN0-/DAC1Ref+/ICSPCLK, 13 RA0/ANA0/C1IN0+/DAC1OUT/~{{SS2}/ICSPDAT}, 14 VSS

## PIC16LF18325-xGZ
designator *  value PIC16LF18325-xGZ  Reference: U
8192W FLASH, 1024B SRAM, 256B EEPROM, QFN-20; ki_keywords: FLASH-Based 8-Bit CMOS Microcontroller Low Power; ki_fp_filters: UQFN*1EP*4x4mm*P0.5mm*; Footprint: Package_DFN_QFN:UQFN-20-1EP_4x4mm_P0.5mm_EP2.8x2.8mm; Datasheet: http://ww1.microchip.com/downloads/en/DeviceDoc/40001795E.pdf; Description_: 8192W FLASH, 1024B SRAM, 256B EEPROM, QFN-20
pins: 1 RA3/~{{MCLR}/VPP}, 2 RC5, 3 RC4, 4 RC3, 5 RC6, 6 RC7, 7 RB7, 8 RB6, 9 RB5, 10 RB4, 11 RC2, 12 RC1, 13 RC0, 14 RA2, 15 RA1/ICSPCLK, 16 RA0/ICSPDAT, 17 VSS, 18 VDD, 19 RA5, 20 RA4, 21 VSS

## PIC16LF18325-xJQ
designator *  value PIC16LF18325-xJQ  Reference: U
8192W FLASH, 1024B SRAM, 256B EEPROM,  QFN-16; ki_keywords: FLASH-Based 8-Bit CMOS Microcontroller Low Power; ki_fp_filters: UQFN*1EP*4x4mm*P0.65mm*EP2.6x2.6mm*; Footprint: Package_DFN_QFN:UQFN-16-1EP_4x4mm_P0.65mm_EP2.6x2.6mm; Datasheet: http://ww1.microchip.com/downloads/en/DeviceDoc/40001795E.pdf; Description_: 8192W FLASH, 1024B SRAM, 256B EEPROM,  QFN-16
pins: 1 RA5, 2 RA4, 3 RA3/~{{MCLR}}, 4 RC5, 5 RC4, 6 RC3, 7 RC2, 8 RC1, 9 RC0, 10 RA2, 11 RA1/ICSPCLK, 12 RA0/ICSPDAT, 13 VSS, 14 NC, 15 NC, 16 VDD

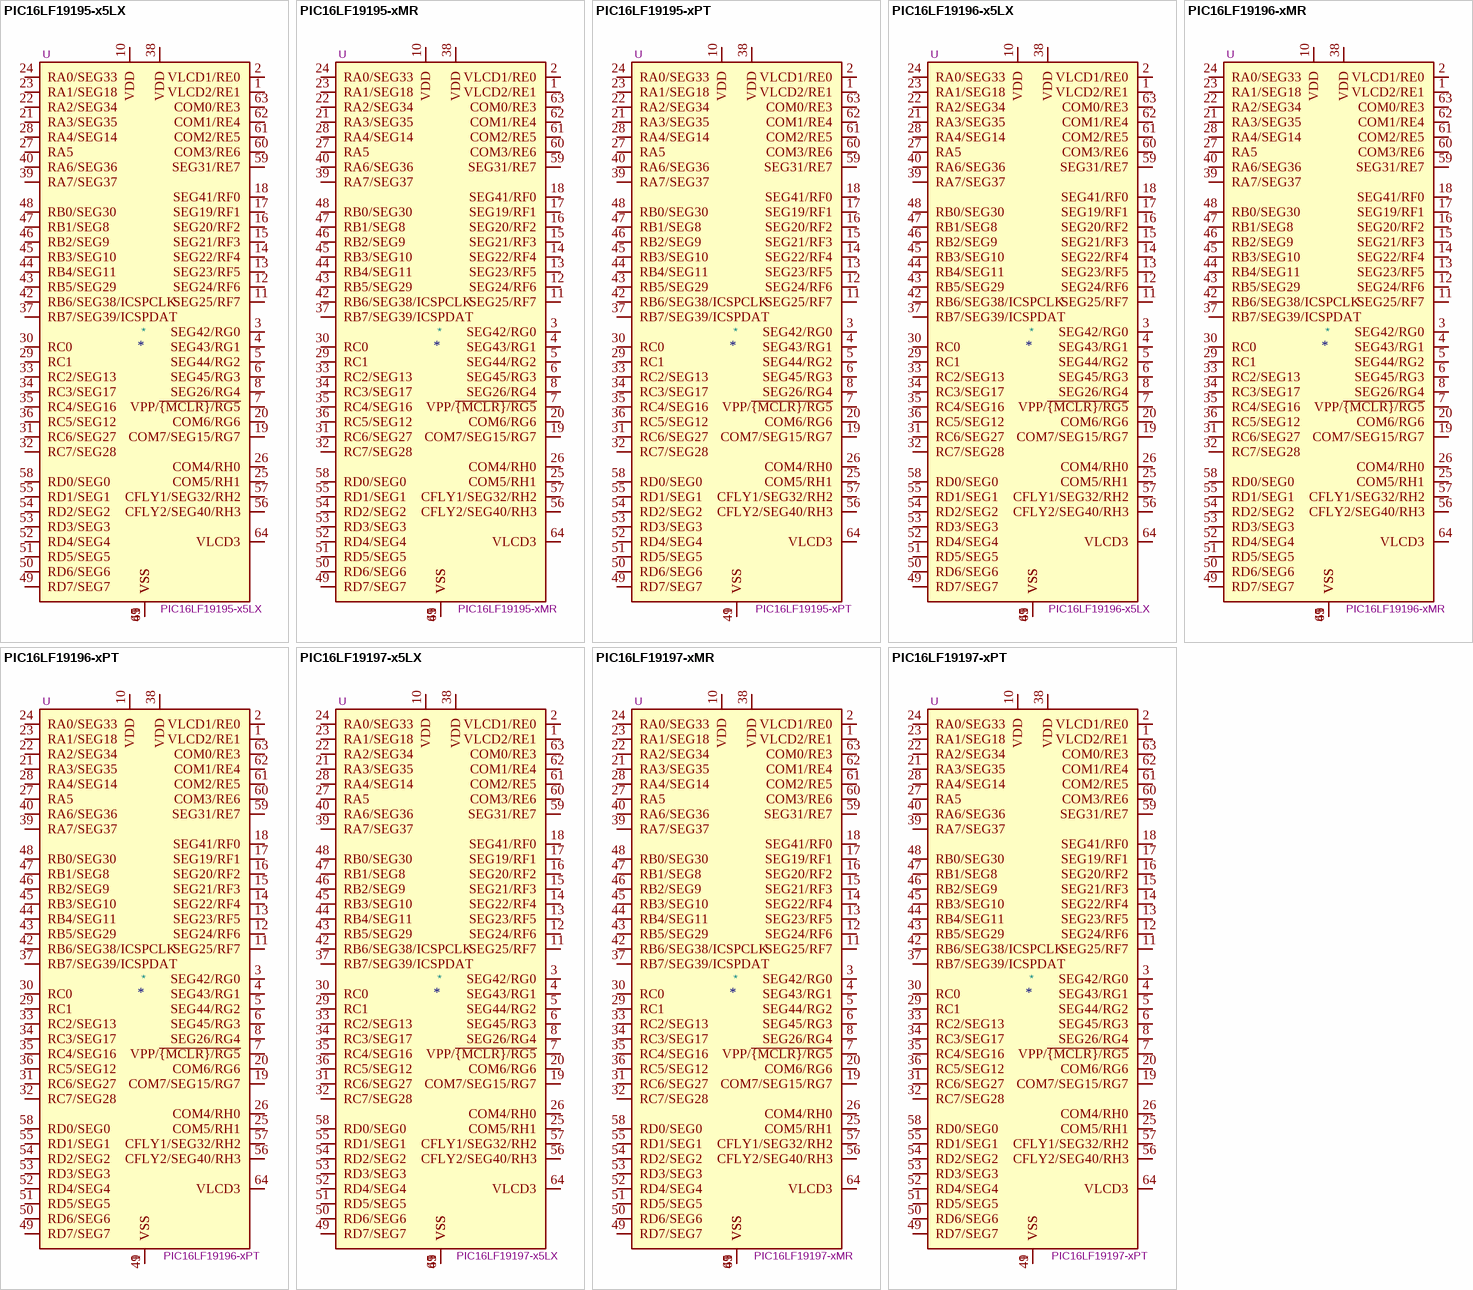
[diagram p19: symbols PIC16LF19195-x5LX to PIC16LF19197-xPT]

## PIC16LF19195-x5LX
designator *  value PIC16LF19195-x5LX  Reference: U
8kW FLASH, 1kB RAM, 256B EEPROM, VQFN-64; ki_keywords: FLASH-Based 8-Bit CMOS Microcontroller Low Power; ki_fp_filters: VQFN*9x9mm*P0.5mm*; Footprint: Package_DFN_QFN:VQFN-64-1EP_9x9mm_P0.5mm_EP5.4x5.4mm; Datasheet: http://ww1.microchip.com/downloads/en/DeviceDoc/PIC16LF19195-6-7-Data-Sheet-40001873D.pdf; Description_: 8kW FLASH, 1kB RAM, 256B EEPROM, VQFN-64
pins: 1 VLCD2/RE1, 2 VLCD1/RE0, 3 SEG42/RG0, 4 SEG43/RG1, 5 SEG44/RG2, 6 SEG45/RG3, 7 VPP/~{{MCLR}/RG5}, 8 SEG26/RG4, 9 VSS, 10 VDD, 11 SEG25/RF7, 12 SEG24/RF6, 13 SEG23/RF5, 14 SEG22/RF4, 15 SEG21/RF3, 16 SEG20/RF2, 17 SEG19/RF1, 18 SEG41/RF0, 19 COM7/SEG15/RG7, 20 COM6/RG6, 21 RA3/SEG35, 22 RA2/SEG34, 23 RA1/SEG18, 24 RA0/SEG33, 25 COM5/RH1, 26 COM4/RH0, 27 RA5, 28 RA4/SEG14, 29 RC1, 30 RC0, 31 RC6/SEG27, 32 RC7/SEG28, 33 RC2/SEG13, 34 RC3/SEG17, 35 RC4/SEG16, 36 RC5/SEG12, 37 RB7/SEG39/ICSPDAT, 38 VDD, 39 RA7/SEG37, 40 RA6/SEG36, 41 VSS, 42 RB6/SEG38/ICSPCLK, 43 RB5/SEG29, 44 RB4/SEG11, 45 RB3/SEG10, 46 RB2/SEG9, 47 RB1/SEG8, 48 RB0/SEG30, 49 RD7/SEG7, 50 RD6/SEG6, 51 RD5/SEG5, 52 RD4/SEG4, 53 RD3/SEG3, 54 RD2/SEG2, 55 RD1/SEG1, 56 CFLY2/SEG40/RH3, 57 CFLY1/SEG32/RH2, 58 RD0/SEG0, 59 SEG31/RE7, 60 COM3/RE6, 61 COM2/RE5, 62 COM1/RE4, 63 COM0/RE3, 64 VLCD3, 65 VSS

## PIC16LF19195-xMR
designator *  value PIC16LF19195-xMR  Reference: U
8kW FLASH, 1kB RAM, 256B EEPROM, QFN-64; ki_keywords: FLASH-Based 8-Bit CMOS Microcontroller Low Power; ki_fp_filters: QFN*9x9mm*P0.5mm*; Footprint: Package_DFN_QFN:QFN-64-1EP_9x9mm_P0.5mm_EP5.4x5.4mm; Datasheet: http://ww1.microchip.com/downloads/en/DeviceDoc/PIC16LF19195-6-7-Data-Sheet-40001873D.pdf; Description_: 8kW FLASH, 1kB RAM, 256B EEPROM, QFN-64
pins: 1 VLCD2/RE1, 2 VLCD1/RE0, 3 SEG42/RG0, 4 SEG43/RG1, 5 SEG44/RG2, 6 SEG45/RG3, 7 VPP/~{{MCLR}/RG5}, 8 SEG26/RG4, 9 VSS, 10 VDD, 11 SEG25/RF7, 12 SEG24/RF6, 13 SEG23/RF5, 14 SEG22/RF4, 15 SEG21/RF3, 16 SEG20/RF2, 17 SEG19/RF1, 18 SEG41/RF0, 19 COM7/SEG15/RG7, 20 COM6/RG6, 21 RA3/SEG35, 22 RA2/SEG34, 23 RA1/SEG18, 24 RA0/SEG33, 25 COM5/RH1, 26 COM4/RH0, 27 RA5, 28 RA4/SEG14, 29 RC1, 30 RC0, 31 RC6/SEG27, 32 RC7/SEG28, 33 RC2/SEG13, 34 RC3/SEG17, 35 RC4/SEG16, 36 RC5/SEG12, 37 RB7/SEG39/ICSPDAT, 38 VDD, 39 RA7/SEG37, 40 RA6/SEG36, 41 VSS, 42 RB6/SEG38/ICSPCLK, 43 RB5/SEG29, 44 RB4/SEG11, 45 RB3/SEG10, 46 RB2/SEG9, 47 RB1/SEG8, 48 RB0/SEG30, 49 RD7/SEG7, 50 RD6/SEG6, 51 RD5/SEG5, 52 RD4/SEG4, 53 RD3/SEG3, 54 RD2/SEG2, 55 RD1/SEG1, 56 CFLY2/SEG40/RH3, 57 CFLY1/SEG32/RH2, 58 RD0/SEG0, 59 SEG31/RE7, 60 COM3/RE6, 61 COM2/RE5, 62 COM1/RE4, 63 COM0/RE3, 64 VLCD3, 65 VSS

## PIC16LF19195-xPT
designator *  value PIC16LF19195-xPT  Reference: U
8kW FLASH, 1kB RAM, 256B EEPROM, TQFP-64; ki_keywords: FLASH-Based 8-Bit CMOS Microcontroller Low Power; ki_fp_filters: TQFP*10x10mm*P0.5mm*; Footprint: Package_QFP:TQFP-64_10x10mm_P0.5mm; Datasheet: http://ww1.microchip.com/downloads/en/DeviceDoc/PIC16LF19195-6-7-Data-Sheet-40001873D.pdf; Description_: 8kW FLASH, 1kB RAM, 256B EEPROM, TQFP-64
pins: 1 VLCD2/RE1, 2 VLCD1/RE0, 3 SEG42/RG0, 4 SEG43/RG1, 5 SEG44/RG2, 6 SEG45/RG3, 7 VPP/~{{MCLR}/RG5}, 8 SEG26/RG4, 9 VSS, 10 VDD, 11 SEG25/RF7, 12 SEG24/RF6, 13 SEG23/RF5, 14 SEG22/RF4, 15 SEG21/RF3, 16 SEG20/RF2, 17 SEG19/RF1, 18 SEG41/RF0, 19 COM7/SEG15/RG7, 20 COM6/RG6, 21 RA3/SEG35, 22 RA2/SEG34, 23 RA1/SEG18, 24 RA0/SEG33, 25 COM5/RH1, 26 COM4/RH0, 27 RA5, 28 RA4/SEG14, 29 RC1, 30 RC0, 31 RC6/SEG27, 32 RC7/SEG28, 33 RC2/SEG13, 34 RC3/SEG17, 35 RC4/SEG16, 36 RC5/SEG12, 37 RB7/SEG39/ICSPDAT, 38 VDD, 39 RA7/SEG37, 40 RA6/SEG36, 41 VSS, 42 RB6/SEG38/ICSPCLK, 43 RB5/SEG29, 44 RB4/SEG11, 45 RB3/SEG10, 46 RB2/SEG9, 47 RB1/SEG8, 48 RB0/SEG30, 49 RD7/SEG7, 50 RD6/SEG6, 51 RD5/SEG5, 52 RD4/SEG4, 53 RD3/SEG3, 54 RD2/SEG2, 55 RD1/SEG1, 56 CFLY2/SEG40/RH3, 57 CFLY1/SEG32/RH2, 58 RD0/SEG0, 59 SEG31/RE7, 60 COM3/RE6, 61 COM2/RE5, 62 COM1/RE4, 63 COM0/RE3, 64 VLCD3

## PIC16LF19196-x5LX
designator *  value PIC16LF19196-x5LX  Reference: U
16kW FLASH, 2kB RAM, 256B EEPROM, VQFN-64; ki_keywords: FLASH-Based 8-Bit CMOS Microcontroller Low Power; ki_fp_filters: VQFN*9x9mm*P0.5mm*; Footprint: Package_DFN_QFN:VQFN-64-1EP_9x9mm_P0.5mm_EP5.4x5.4mm; Datasheet: http://ww1.microchip.com/downloads/en/DeviceDoc/PIC16LF19195-6-7-Data-Sheet-40001873D.pdf; Description_: 16kW FLASH, 2kB RAM, 256B EEPROM, VQFN-64
pins: 1 VLCD2/RE1, 2 VLCD1/RE0, 3 SEG42/RG0, 4 SEG43/RG1, 5 SEG44/RG2, 6 SEG45/RG3, 7 VPP/~{{MCLR}/RG5}, 8 SEG26/RG4, 9 VSS, 10 VDD, 11 SEG25/RF7, 12 SEG24/RF6, 13 SEG23/RF5, 14 SEG22/RF4, 15 SEG21/RF3, 16 SEG20/RF2, 17 SEG19/RF1, 18 SEG41/RF0, 19 COM7/SEG15/RG7, 20 COM6/RG6, 21 RA3/SEG35, 22 RA2/SEG34, 23 RA1/SEG18, 24 RA0/SEG33, 25 COM5/RH1, 26 COM4/RH0, 27 RA5, 28 RA4/SEG14, 29 RC1, 30 RC0, 31 RC6/SEG27, 32 RC7/SEG28, 33 RC2/SEG13, 34 RC3/SEG17, 35 RC4/SEG16, 36 RC5/SEG12, 37 RB7/SEG39/ICSPDAT, 38 VDD, 39 RA7/SEG37, 40 RA6/SEG36, 41 VSS, 42 RB6/SEG38/ICSPCLK, 43 RB5/SEG29, 44 RB4/SEG11, 45 RB3/SEG10, 46 RB2/SEG9, 47 RB1/SEG8, 48 RB0/SEG30, 49 RD7/SEG7, 50 RD6/SEG6, 51 RD5/SEG5, 52 RD4/SEG4, 53 RD3/SEG3, 54 RD2/SEG2, 55 RD1/SEG1, 56 CFLY2/SEG40/RH3, 57 CFLY1/SEG32/RH2, 58 RD0/SEG0, 59 SEG31/RE7, 60 COM3/RE6, 61 COM2/RE5, 62 COM1/RE4, 63 COM0/RE3, 64 VLCD3, 65 VSS

## PIC16LF19196-xMR
designator *  value PIC16LF19196-xMR  Reference: U
16kW FLASH, 2kB RAM, 256B EEPROM, QFN-64; ki_keywords: FLASH-Based 8-Bit CMOS Microcontroller Low Power; ki_fp_filters: QFN*9x9mm*P0.5mm*; Footprint: Package_DFN_QFN:QFN-64-1EP_9x9mm_P0.5mm_EP5.4x5.4mm; Datasheet: http://ww1.microchip.com/downloads/en/DeviceDoc/PIC16LF19195-6-7-Data-Sheet-40001873D.pdf; Description_: 16kW FLASH, 2kB RAM, 256B EEPROM, QFN-64
pins: 1 VLCD2/RE1, 2 VLCD1/RE0, 3 SEG42/RG0, 4 SEG43/RG1, 5 SEG44/RG2, 6 SEG45/RG3, 7 VPP/~{{MCLR}/RG5}, 8 SEG26/RG4, 9 VSS, 10 VDD, 11 SEG25/RF7, 12 SEG24/RF6, 13 SEG23/RF5, 14 SEG22/RF4, 15 SEG21/RF3, 16 SEG20/RF2, 17 SEG19/RF1, 18 SEG41/RF0, 19 COM7/SEG15/RG7, 20 COM6/RG6, 21 RA3/SEG35, 22 RA2/SEG34, 23 RA1/SEG18, 24 RA0/SEG33, 25 COM5/RH1, 26 COM4/RH0, 27 RA5, 28 RA4/SEG14, 29 RC1, 30 RC0, 31 RC6/SEG27, 32 RC7/SEG28, 33 RC2/SEG13, 34 RC3/SEG17, 35 RC4/SEG16, 36 RC5/SEG12, 37 RB7/SEG39/ICSPDAT, 38 VDD, 39 RA7/SEG37, 40 RA6/SEG36, 41 VSS, 42 RB6/SEG38/ICSPCLK, 43 RB5/SEG29, 44 RB4/SEG11, 45 RB3/SEG10, 46 RB2/SEG9, 47 RB1/SEG8, 48 RB0/SEG30, 49 RD7/SEG7, 50 RD6/SEG6, 51 RD5/SEG5, 52 RD4/SEG4, 53 RD3/SEG3, 54 RD2/SEG2, 55 RD1/SEG1, 56 CFLY2/SEG40/RH3, 57 CFLY1/SEG32/RH2, 58 RD0/SEG0, 59 SEG31/RE7, 60 COM3/RE6, 61 COM2/RE5, 62 COM1/RE4, 63 COM0/RE3, 64 VLCD3, 65 VSS

## PIC16LF19196-xPT
designator *  value PIC16LF19196-xPT  Reference: U
16kW FLASH, 2kB RAM, 256B EEPROM, TQFP-64; ki_keywords: FLASH-Based 8-Bit CMOS Microcontroller Low Power; ki_fp_filters: TQFP*10x10mm*P0.5mm*; Footprint: Package_QFP:TQFP-64_10x10mm_P0.5mm; Datasheet: http://ww1.microchip.com/downloads/en/DeviceDoc/PIC16LF19195-6-7-Data-Sheet-40001873D.pdf; Description_: 16kW FLASH, 2kB RAM, 256B EEPROM, TQFP-64
pins: 1 VLCD2/RE1, 2 VLCD1/RE0, 3 SEG42/RG0, 4 SEG43/RG1, 5 SEG44/RG2, 6 SEG45/RG3, 7 VPP/~{{MCLR}/RG5}, 8 SEG26/RG4, 9 VSS, 10 VDD, 11 SEG25/RF7, 12 SEG24/RF6, 13 SEG23/RF5, 14 SEG22/RF4, 15 SEG21/RF3, 16 SEG20/RF2, 17 SEG19/RF1, 18 SEG41/RF0, 19 COM7/SEG15/RG7, 20 COM6/RG6, 21 RA3/SEG35, 22 RA2/SEG34, 23 RA1/SEG18, 24 RA0/SEG33, 25 COM5/RH1, 26 COM4/RH0, 27 RA5, 28 RA4/SEG14, 29 RC1, 30 RC0, 31 RC6/SEG27, 32 RC7/SEG28, 33 RC2/SEG13, 34 RC3/SEG17, 35 RC4/SEG16, 36 RC5/SEG12, 37 RB7/SEG39/ICSPDAT, 38 VDD, 39 RA7/SEG37, 40 RA6/SEG36, 41 VSS, 42 RB6/SEG38/ICSPCLK, 43 RB5/SEG29, 44 RB4/SEG11, 45 RB3/SEG10, 46 RB2/SEG9, 47 RB1/SEG8, 48 RB0/SEG30, 49 RD7/SEG7, 50 RD6/SEG6, 51 RD5/SEG5, 52 RD4/SEG4, 53 RD3/SEG3, 54 RD2/SEG2, 55 RD1/SEG1, 56 CFLY2/SEG40/RH3, 57 CFLY1/SEG32/RH2, 58 RD0/SEG0, 59 SEG31/RE7, 60 COM3/RE6, 61 COM2/RE5, 62 COM1/RE4, 63 COM0/RE3, 64 VLCD3

## PIC16LF19197-x5LX
designator *  value PIC16LF19197-x5LX  Reference: U
32kW FLASH, 4kB RAM, 256B EEPROM, VQFN-64; ki_keywords: FLASH-Based 8-Bit CMOS Microcontroller Low Power; ki_fp_filters: VQFN*9x9mm*P0.5mm*; Footprint: Package_DFN_QFN:VQFN-64-1EP_9x9mm_P0.5mm_EP5.4x5.4mm; Datasheet: http://ww1.microchip.com/downloads/en/DeviceDoc/PIC16LF19195-6-7-Data-Sheet-40001873D.pdf; Description_: 32kW FLASH, 4kB RAM, 256B EEPROM, VQFN-64
pins: 1 VLCD2/RE1, 2 VLCD1/RE0, 3 SEG42/RG0, 4 SEG43/RG1, 5 SEG44/RG2, 6 SEG45/RG3, 7 VPP/~{{MCLR}/RG5}, 8 SEG26/RG4, 9 VSS, 10 VDD, 11 SEG25/RF7, 12 SEG24/RF6, 13 SEG23/RF5, 14 SEG22/RF4, 15 SEG21/RF3, 16 SEG20/RF2, 17 SEG19/RF1, 18 SEG41/RF0, 19 COM7/SEG15/RG7, 20 COM6/RG6, 21 RA3/SEG35, 22 RA2/SEG34, 23 RA1/SEG18, 24 RA0/SEG33, 25 COM5/RH1, 26 COM4/RH0, 27 RA5, 28 RA4/SEG14, 29 RC1, 30 RC0, 31 RC6/SEG27, 32 RC7/SEG28, 33 RC2/SEG13, 34 RC3/SEG17, 35 RC4/SEG16, 36 RC5/SEG12, 37 RB7/SEG39/ICSPDAT, 38 VDD, 39 RA7/SEG37, 40 RA6/SEG36, 41 VSS, 42 RB6/SEG38/ICSPCLK, 43 RB5/SEG29, 44 RB4/SEG11, 45 RB3/SEG10, 46 RB2/SEG9, 47 RB1/SEG8, 48 RB0/SEG30, 49 RD7/SEG7, 50 RD6/SEG6, 51 RD5/SEG5, 52 RD4/SEG4, 53 RD3/SEG3, 54 RD2/SEG2, 55 RD1/SEG1, 56 CFLY2/SEG40/RH3, 57 CFLY1/SEG32/RH2, 58 RD0/SEG0, 59 SEG31/RE7, 60 COM3/RE6, 61 COM2/RE5, 62 COM1/RE4, 63 COM0/RE3, 64 VLCD3, 65 VSS